# Altium integrated library Motorola Microcontroller 32-Bit.IntLib: 337 symbols (part 6 of 29)
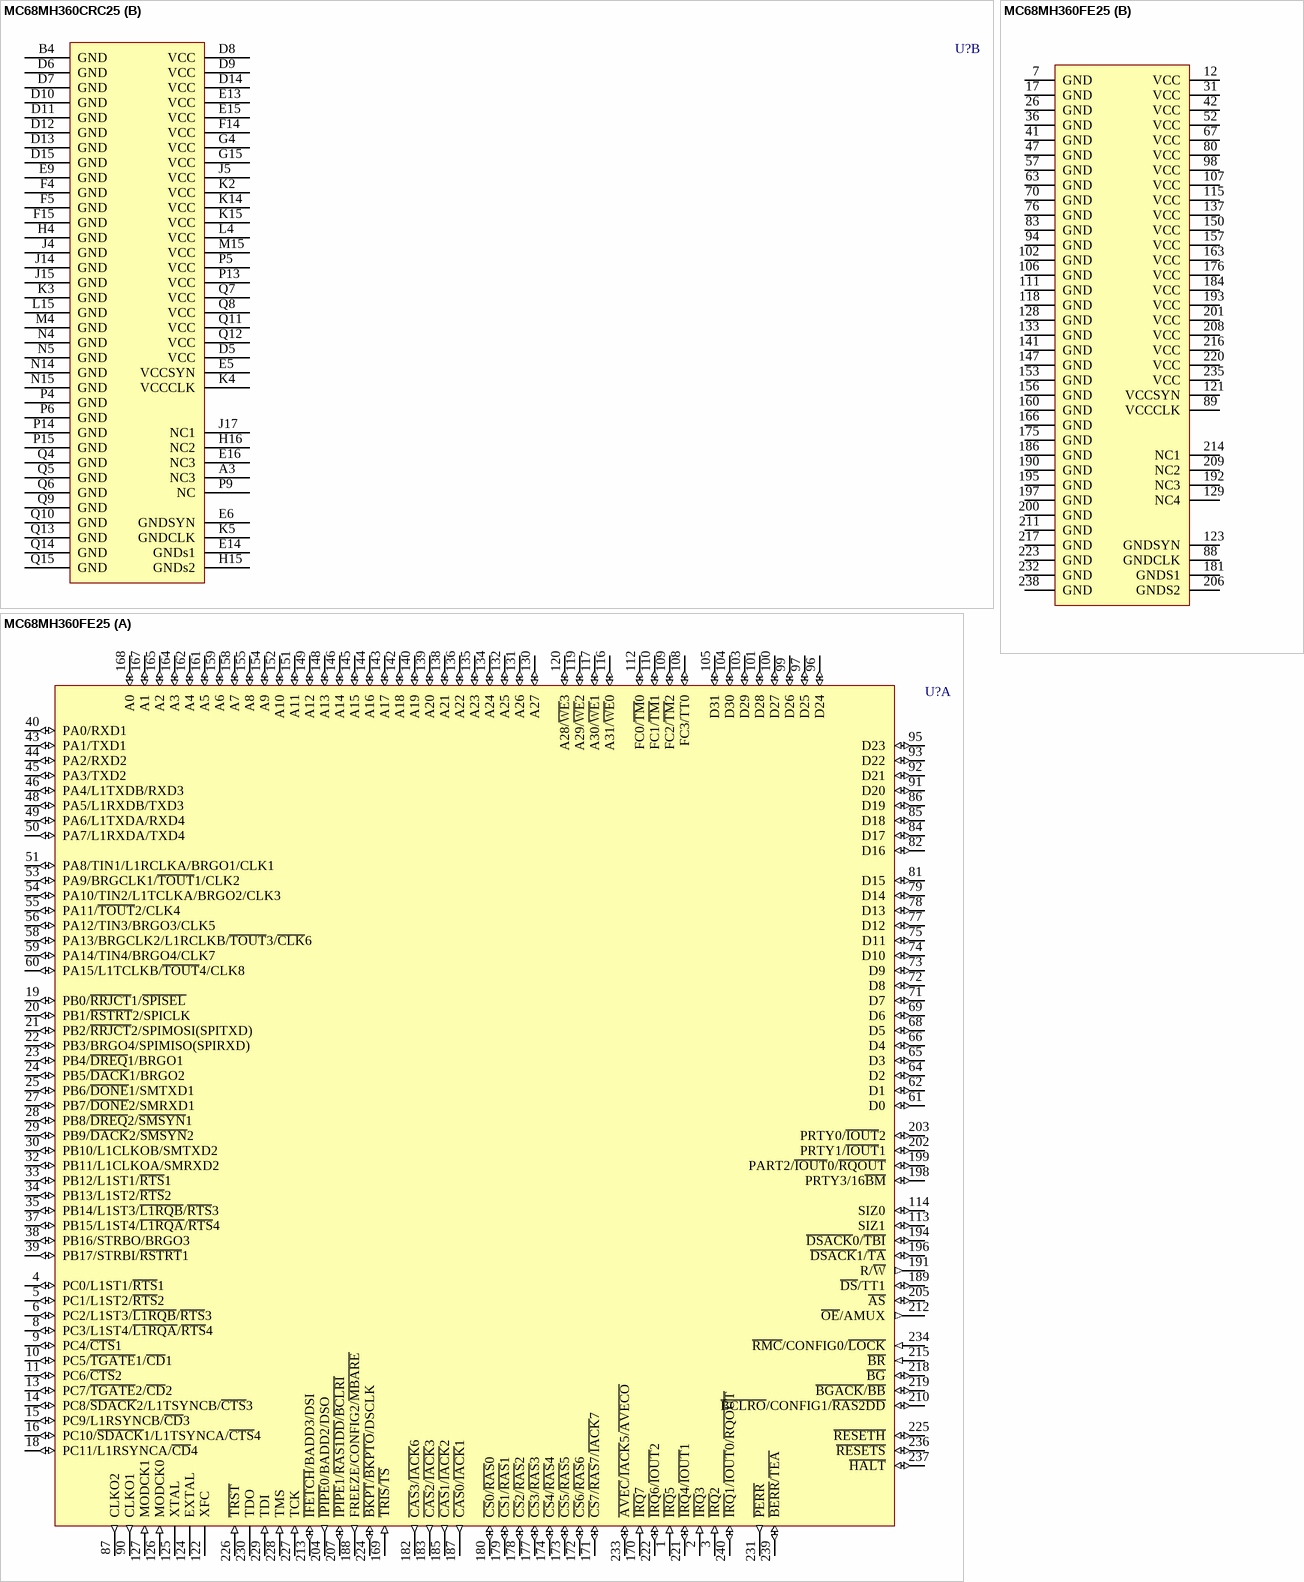
[diagram p245: symbols MC68MH360CRC25 to MC68MH360FE25]

## MC68MH360FE25
designator U?
Quad Integrated Communication Controller; Published: 21-Mar-2003; LatestRevisionDate: 13-Apr-2006; LatestRevisionNote: IPC-7351 Footprint Added.; DatasheetVersion: Jan-1995; PackageVersion: Mar-1995; PackageReference: 988-01; Publisher: Altium Limited; PackageDescription: 240-Pin Shrink Quad Flat Pack 0.5 mm Pitch; ComponentLink1Description: Manufacturer Link; ComponentLink1URL: http://www.freescale.com/; ComponentLink2Description: Datasheet; ComponentLink2URL: http://www.freescale.com/files/32bit/doc/data_sheet/MC68360.pdf
footprint 988-01_N (Shrink QFP, 240-Leads, Body 31.3x31.3mm, Pitch 0.5mm, IPC Medium Density)
footprint 988-01_L (Shrink QFP, 240-Leads, Body 31.3x31.3mm, Pitch 0.5mm, IPC High Density)
footprint 988-01_M (Shrink QFP, 240-Leads, Body 31.3x31.3mm, Pitch 0.5mm, IPC Low Density)
3D model MC68MH360-988-01 (240-Pin Shrink Quad Flat Pack 0.5 mm Pitch)
part A pins: 1 ~{IRQ}5 (in), 2 ~{IRQ}3 (in), 3 ~{IRQ}2 (in), 4 PC0/L1ST1/~{RTS}1 (io), 5 PC1/L1ST2/~{RTS}2 (io), 6 PC2/L1ST3/~{L1RQB}/~{RTS}3 (io), 8 PC3/L1ST4/~{L1RQA}/~{RTS}4 (io), 9 PC4/~{CTS}1 (io), 10 PC5/~{TGATE}1/~{CD}1 (io), 11 PC6/~{CTS}2 (io), 13 PC7/~{TGATE}2/~{CD}2 (io), 14 PC8/~{SDACK}2/L1TSYNCB/~{CTS}3 (io), 15 PC9/L1RSYNCB/~{CD}3 (io), 16 PC10/~{SDACK}1/L1TSYNCA/~{CTS}4 (io), 18 PC11/L1RSYNCA/~{CD}4 (io), 19 PB0/~{RRJCT}1/~{SPISEL} (io), 20 PB1/~{RSTRT}2/SPICLK (io), 21 PB2/~{RRJCT}2/SPIMOSI(SPITXD) (io), 22 PB3/BRGO4/SPIMISO(SPIRXD) (io), 23 PB4/~{DREQ}1/BRGO1 (io), 24 PB5/~{DACK}1/BRGO2 (io), 25 PB6/~{DONE}1/SMTXD1 (io), 27 PB7/~{DONE}2/SMRXD1 (io), 28 PB8/~{DREQ}2/~{SMSYN}1 (io), 29 PB9/~{DACK}2/~{SMSYN}2 (io), 30 PB10/L1CLKOB/SMTXD2 (io), 32 PB11/L1CLKOA/SMRXD2 (io), 33 PB12/L1ST1/~{RTS}1 (io), 34 PB13/L1ST2/~{RTS}2 (io), 35 PB14/L1ST3/~{L1RQB}/~{RTS}3 (io), 37 PB15/L1ST4/~{L1RQA}/~{RTS}4 (io), 38 PB16/STRBO/BRGO3 (io), 39 PB17/STRBI/~{RSTRT}1 (io), 40 PA0/RXD1 (io), 43 PA1/TXD1 (io), 44 PA2/RXD2 (io), 45 PA3/TXD2 (io), 46 PA4/L1TXDB/RXD3 (io), 48 PA5/L1RXDB/TXD3 (io), 49 PA6/L1TXDA/RXD4 (io), 50 PA7/L1RXDA/TXD4 (io), 51 PA8/TIN1/L1RCLKA/BRGO1/CLK1 (io), 53 PA9/BRGCLK1/~{TOUT}1/CLK2 (io), 54 PA10/TIN2/L1TCLKA/BRGO2/CLK3 (io), 55 PA11/~{TOUT}2/CLK4 (io), 56 PA12/TIN3/BRGO3/CLK5 (io), 58 PA13/BRGCLK2/L1RCLKB/~{TOUT}3/~{CLK}6 (io), 59 PA14/TIN4/BRGO4/CLK7 (io), 60 PA15/L1TCLKB/~{TOUT}4/CLK8 (io), 61 D0 (io), 62 D1 (io), 64 D2 (io), 65 D3 (io), 66 D4 (io), 68 D5 (io), 69 D6 (io), 71 D7 (io), 72 D8 (io), 73 D9 (io), 74 D10 (io), 75 D11 (io), 77 D12 (io), 78 D13 (io), 79 D14 (io), 81 D15 (io), 82 D16 (io), 84 D17 (io), 85 D18 (io), 86 D19 (io), 87 CLKO2 (out), 90 CLKO1 (out), 91 D20 (io), 92 D21 (io), 93 D22 (io), 95 D23 (io), 96 D24 (io), 97 D25 (io), 99 D26 (io), 100 D27 (io), 101 D28 (io), 103 D29 (io), 104 D30 (io), 105 D31 (io), 108 FC3/TT0 (io), 109 FC2/~{TM}2 (io), 110 FC1/~{TM}1 (io), 112 FC0/~{TM}0 (io), 113 SIZ1 (io), 114 SIZ0 (io), 116 A31/~{WE}0 (io), 117 A30/~{WE}1 (io), 119 A29/~{WE}2 (io), 120 A28/~{WE}3 (io), 122 XFC, 124 EXTAL, 125 XTAL, 126 MODCK0 (in), 127 MODCK1 (in), 130 A27 (io), 131 A26 (io), 132 A25 (io), 134 A24 (io), 135 A23 (io), 136 A22 (io), 138 A21 (io), 139 A20 (io), 140 A19 (io), 142 A18 (io), 143 A17 (io), 144 A16 (io), 145 A15 (io), 146 A14 (io), 148 A13 (io), 149 A12 (io), 151 A11 (io), 152 A10 (io), 154 A9 (io), 155 A8 (io), 158 A7 (io), 159 A6 (io), 161 A5 (io), 162 A4 (io), 164 A3 (io), 165 A2 (io), 167 A1 (io), 168 A0 (io), 169 ~{TRIS}/~{TS} (in), 170 ~{IRQ}7 (in), 171 ~{CS}7/~{RAS}7/~{IACK}7 (io), 172 ~{CS}6/~{RAS}6 (io), 173 ~{CS}5/~{RAS}5 (io), 174 ~{CS}4/~{RAS}4 (io), 177 ~{CS}3/~{RAS}3 (io), 178 ~{CS}2/~{RAS}2 (io), 179 ~{CS}1/~{RAS}1 (io), 180 ~{CS}0/~{RAS}0 (io), 182 ~{CAS}3/~{IACK}6 (out), 183 ~{CAS}2/~{IACK}3 (out), 185 ~{CAS}1/~{IACK}2 (out), 187 ~{CAS}0/~{IACK}1 (out), 188 FREEZE/CONFIG2/~{MBARE} (out), 189 ~{DS}/TT1 (io), 191 R/~{W} (out), 194 ~{DSACK}0/~{TBI} (io), 196 ~{DSACK}1/~{TA} (io), 198 PRTY3/16~{BM} (io), 199 PART2/~{IOUT}0/~{RQOUT} (io), 202 PRTY1/~{IOUT}1 (io), 203 PRTY0/~{IOUT}2 (io), 204 ~{IPIPE}0/BADD2/DSO (out), 205 ~{AS} (io), 207 ~{IPIPE}1/~{RAS1DD}/~{BCLRI} (io), 210 ~{BCLRO}/CONFIG1/~{RAS2DD} (io), 212 ~{OE}/AMUX (out), 213 ~{IFETCH}/BADD3/DSI (io), 215 ~{BR} (in), 218 ~{BG} (io), 219 ~{BGACK}/~{BB} (io), 221 ~{IRQ}4/~{IOUT}1 (io), 222 ~{IRQ}6/~{IOUT}2 (io), 224 ~{BKPT}/~{BKPTO}/DSCLK (io), 225 ~{RESETH} (io), 226 ~{TRST} (in), 227 TCK (in), 228 TMS (in), 229 TDI (in), 230 TDO (hiz), 231 ~{PERR} (out), 233 ~{AVEC}/~{IACK}5/~{AVECO} (io), 234 ~{RMC}/CONFIG0/~{LOCK} (in), 236 ~{RESETS} (io), 237 ~{HALT} (io), 239 ~{BERR}/~{TEA} (io), 240 ~{IRQ}1/~{IOUT}0/~{RQOUT} (io)
part B pins: 7 GND (power), 12 VCC (power), 17 GND (power), 26 GND (power), 31 VCC (power), 36 GND (power), 41 GND (power), 42 VCC (power), 47 GND (power), 52 VCC (power), 57 GND (power), 63 GND (power), 67 VCC (power), 70 GND (power), 76 GND (power), 80 VCC (power), 83 GND (power), 88 GNDCLK (power), 89 VCCCLK (power), 94 GND (power), 98 VCC (power), 102 GND (power), 106 GND (power), 107 VCC (power), 111 GND (power), 115 VCC (power), 118 GND (power), 121 VCCSYN (power), 123 GNDSYN (power), 128 GND (power), 129 NC4, 133 GND (power), 137 VCC (power), 141 GND (power), 147 GND (power), 150 VCC (power), 153 GND (power), 156 GND (power), 157 VCC (power), 160 GND (power), 163 VCC (power), 166 GND (power), 175 GND (power), 176 VCC (power), 181 GNDS1 (power), 184 VCC (power), 186 GND (power), 190 GND (power), 192 NC3, 193 VCC (power), 195 GND (power), 197 GND (power), 200 GND (power), 201 VCC (power), 206 GNDS2 (power), 208 VCC (power), 209 NC2, 211 GND (power), 214 NC1, 216 VCC (power), 217 GND (power), 220 VCC (power), 223 GND (power), 232 GND (power), 235 VCC (power), 238 GND (power)

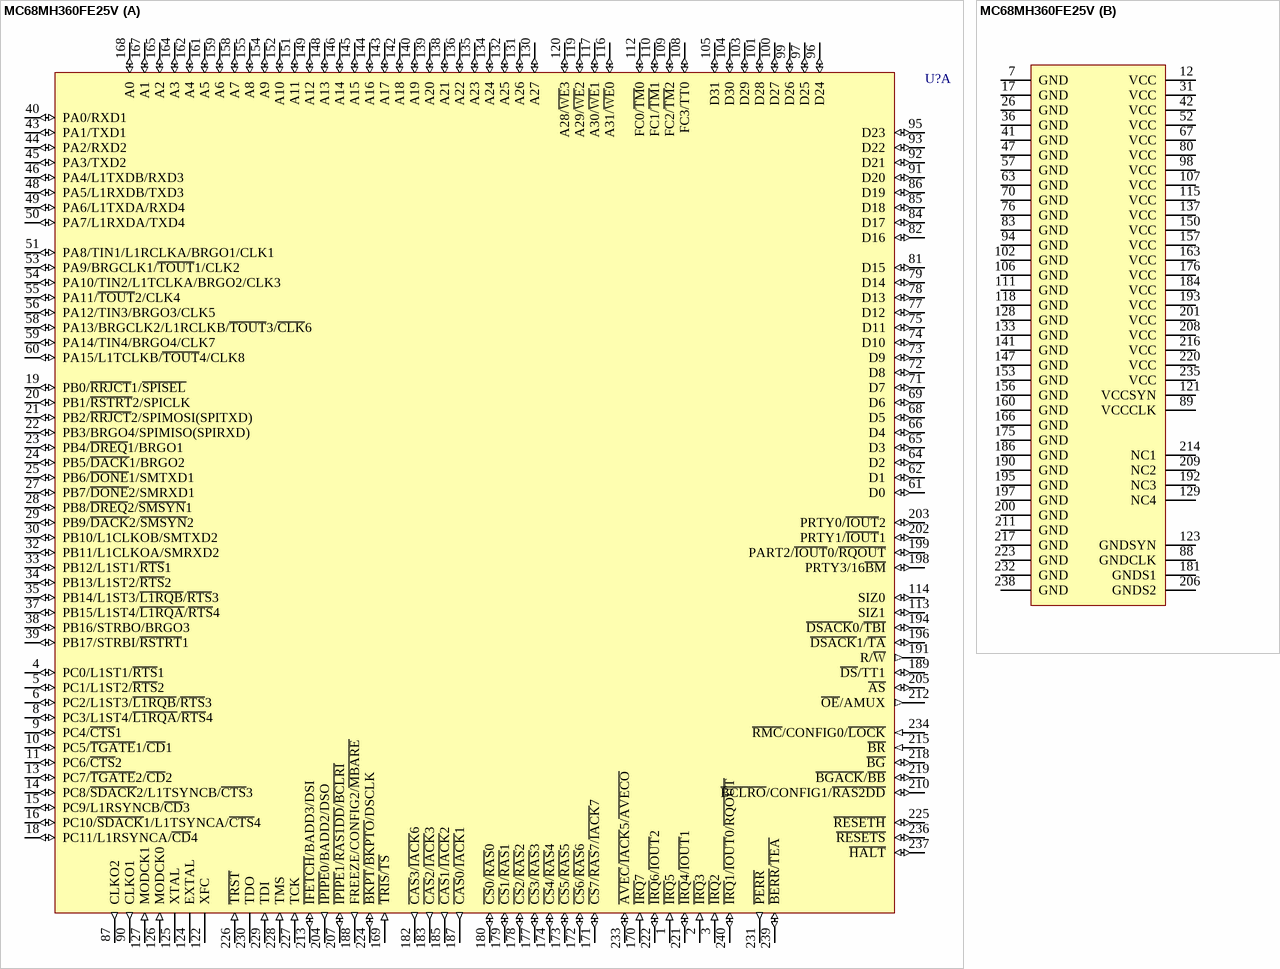
[diagram p48: symbol MC68MH360FE25V]

## MC68MH360FE25V
designator U?
Quad Integrated Communication Controller; Published: 21-Mar-2003; LatestRevisionDate: 13-Apr-2006; LatestRevisionNote: IPC-7351 Footprint Added.; DatasheetVersion: Jan-1995; PackageVersion: Mar-1995; PackageReference: 988-01; Publisher: Altium Limited; PackageDescription: 240-Pin Shrink Quad Flat Pack 0.5 mm Pitch; ComponentLink1Description: Manufacturer Link; ComponentLink1URL: http://www.freescale.com/; ComponentLink2Description: Datasheet; ComponentLink2URL: http://www.freescale.com/files/32bit/doc/data_sheet/MC68360.pdf
footprint 988-01_N (Shrink QFP, 240-Leads, Body 31.3x31.3mm, Pitch 0.5mm, IPC Medium Density)
footprint 988-01_L (Shrink QFP, 240-Leads, Body 31.3x31.3mm, Pitch 0.5mm, IPC High Density)
footprint 988-01_M (Shrink QFP, 240-Leads, Body 31.3x31.3mm, Pitch 0.5mm, IPC Low Density)
3D model MC68MH360-988-01 (240-Pin Shrink Quad Flat Pack 0.5 mm Pitch)
part A pins: 1 ~{IRQ}5 (in), 2 ~{IRQ}3 (in), 3 ~{IRQ}2 (in), 4 PC0/L1ST1/~{RTS}1 (io), 5 PC1/L1ST2/~{RTS}2 (io), 6 PC2/L1ST3/~{L1RQB}/~{RTS}3 (io), 8 PC3/L1ST4/~{L1RQA}/~{RTS}4 (io), 9 PC4/~{CTS}1 (io), 10 PC5/~{TGATE}1/~{CD}1 (io), 11 PC6/~{CTS}2 (io), 13 PC7/~{TGATE}2/~{CD}2 (io), 14 PC8/~{SDACK}2/L1TSYNCB/~{CTS}3 (io), 15 PC9/L1RSYNCB/~{CD}3 (io), 16 PC10/~{SDACK}1/L1TSYNCA/~{CTS}4 (io), 18 PC11/L1RSYNCA/~{CD}4 (io), 19 PB0/~{RRJCT}1/~{SPISEL} (io), 20 PB1/~{RSTRT}2/SPICLK (io), 21 PB2/~{RRJCT}2/SPIMOSI(SPITXD) (io), 22 PB3/BRGO4/SPIMISO(SPIRXD) (io), 23 PB4/~{DREQ}1/BRGO1 (io), 24 PB5/~{DACK}1/BRGO2 (io), 25 PB6/~{DONE}1/SMTXD1 (io), 27 PB7/~{DONE}2/SMRXD1 (io), 28 PB8/~{DREQ}2/~{SMSYN}1 (io), 29 PB9/~{DACK}2/~{SMSYN}2 (io), 30 PB10/L1CLKOB/SMTXD2 (io), 32 PB11/L1CLKOA/SMRXD2 (io), 33 PB12/L1ST1/~{RTS}1 (io), 34 PB13/L1ST2/~{RTS}2 (io), 35 PB14/L1ST3/~{L1RQB}/~{RTS}3 (io), 37 PB15/L1ST4/~{L1RQA}/~{RTS}4 (io), 38 PB16/STRBO/BRGO3 (io), 39 PB17/STRBI/~{RSTRT}1 (io), 40 PA0/RXD1 (io), 43 PA1/TXD1 (io), 44 PA2/RXD2 (io), 45 PA3/TXD2 (io), 46 PA4/L1TXDB/RXD3 (io), 48 PA5/L1RXDB/TXD3 (io), 49 PA6/L1TXDA/RXD4 (io), 50 PA7/L1RXDA/TXD4 (io), 51 PA8/TIN1/L1RCLKA/BRGO1/CLK1 (io), 53 PA9/BRGCLK1/~{TOUT}1/CLK2 (io), 54 PA10/TIN2/L1TCLKA/BRGO2/CLK3 (io), 55 PA11/~{TOUT}2/CLK4 (io), 56 PA12/TIN3/BRGO3/CLK5 (io), 58 PA13/BRGCLK2/L1RCLKB/~{TOUT}3/~{CLK}6 (io), 59 PA14/TIN4/BRGO4/CLK7 (io), 60 PA15/L1TCLKB/~{TOUT}4/CLK8 (io), 61 D0 (io), 62 D1 (io), 64 D2 (io), 65 D3 (io), 66 D4 (io), 68 D5 (io), 69 D6 (io), 71 D7 (io), 72 D8 (io), 73 D9 (io), 74 D10 (io), 75 D11 (io), 77 D12 (io), 78 D13 (io), 79 D14 (io), 81 D15 (io), 82 D16 (io), 84 D17 (io), 85 D18 (io), 86 D19 (io), 87 CLKO2 (out), 90 CLKO1 (out), 91 D20 (io), 92 D21 (io), 93 D22 (io), 95 D23 (io), 96 D24 (io), 97 D25 (io), 99 D26 (io), 100 D27 (io), 101 D28 (io), 103 D29 (io), 104 D30 (io), 105 D31 (io), 108 FC3/TT0 (io), 109 FC2/~{TM}2 (io), 110 FC1/~{TM}1 (io), 112 FC0/~{TM}0 (io), 113 SIZ1 (io), 114 SIZ0 (io), 116 A31/~{WE}0 (io), 117 A30/~{WE}1 (io), 119 A29/~{WE}2 (io), 120 A28/~{WE}3 (io), 122 XFC, 124 EXTAL, 125 XTAL, 126 MODCK0 (in), 127 MODCK1 (in), 130 A27 (io), 131 A26 (io), 132 A25 (io), 134 A24 (io), 135 A23 (io), 136 A22 (io), 138 A21 (io), 139 A20 (io), 140 A19 (io), 142 A18 (io), 143 A17 (io), 144 A16 (io), 145 A15 (io), 146 A14 (io), 148 A13 (io), 149 A12 (io), 151 A11 (io), 152 A10 (io), 154 A9 (io), 155 A8 (io), 158 A7 (io), 159 A6 (io), 161 A5 (io), 162 A4 (io), 164 A3 (io), 165 A2 (io), 167 A1 (io), 168 A0 (io), 169 ~{TRIS}/~{TS} (in), 170 ~{IRQ}7 (in), 171 ~{CS}7/~{RAS}7/~{IACK}7 (io), 172 ~{CS}6/~{RAS}6 (io), 173 ~{CS}5/~{RAS}5 (io), 174 ~{CS}4/~{RAS}4 (io), 177 ~{CS}3/~{RAS}3 (io), 178 ~{CS}2/~{RAS}2 (io), 179 ~{CS}1/~{RAS}1 (io), 180 ~{CS}0/~{RAS}0 (io), 182 ~{CAS}3/~{IACK}6 (out), 183 ~{CAS}2/~{IACK}3 (out), 185 ~{CAS}1/~{IACK}2 (out), 187 ~{CAS}0/~{IACK}1 (out), 188 FREEZE/CONFIG2/~{MBARE} (out), 189 ~{DS}/TT1 (io), 191 R/~{W} (out), 194 ~{DSACK}0/~{TBI} (io), 196 ~{DSACK}1/~{TA} (io), 198 PRTY3/16~{BM} (io), 199 PART2/~{IOUT}0/~{RQOUT} (io), 202 PRTY1/~{IOUT}1 (io), 203 PRTY0/~{IOUT}2 (io), 204 ~{IPIPE}0/BADD2/DSO (out), 205 ~{AS} (io), 207 ~{IPIPE}1/~{RAS1DD}/~{BCLRI} (io), 210 ~{BCLRO}/CONFIG1/~{RAS2DD} (io), 212 ~{OE}/AMUX (out), 213 ~{IFETCH}/BADD3/DSI (io), 215 ~{BR} (in), 218 ~{BG} (io), 219 ~{BGACK}/~{BB} (io), 221 ~{IRQ}4/~{IOUT}1 (io), 222 ~{IRQ}6/~{IOUT}2 (io), 224 ~{BKPT}/~{BKPTO}/DSCLK (io), 225 ~{RESETH} (io), 226 ~{TRST} (in), 227 TCK (in), 228 TMS (in), 229 TDI (in), 230 TDO (hiz), 231 ~{PERR} (out), 233 ~{AVEC}/~{IACK}5/~{AVECO} (io), 234 ~{RMC}/CONFIG0/~{LOCK} (in), 236 ~{RESETS} (io), 237 ~{HALT} (io), 239 ~{BERR}/~{TEA} (io), 240 ~{IRQ}1/~{IOUT}0/~{RQOUT} (io)
part B pins: 7 GND (power), 12 VCC (power), 17 GND (power), 26 GND (power), 31 VCC (power), 36 GND (power), 41 GND (power), 42 VCC (power), 47 GND (power), 52 VCC (power), 57 GND (power), 63 GND (power), 67 VCC (power), 70 GND (power), 76 GND (power), 80 VCC (power), 83 GND (power), 88 GNDCLK (power), 89 VCCCLK (power), 94 GND (power), 98 VCC (power), 102 GND (power), 106 GND (power), 107 VCC (power), 111 GND (power), 115 VCC (power), 118 GND (power), 121 VCCSYN (power), 123 GNDSYN (power), 128 GND (power), 129 NC4, 133 GND (power), 137 VCC (power), 141 GND (power), 147 GND (power), 150 VCC (power), 153 GND (power), 156 GND (power), 157 VCC (power), 160 GND (power), 163 VCC (power), 166 GND (power), 175 GND (power), 176 VCC (power), 181 GNDS1 (power), 184 VCC (power), 186 GND (power), 190 GND (power), 192 NC3, 193 VCC (power), 195 GND (power), 197 GND (power), 200 GND (power), 201 VCC (power), 206 GNDS2 (power), 208 VCC (power), 209 NC2, 211 GND (power), 214 NC1, 216 VCC (power), 217 GND (power), 220 VCC (power), 223 GND (power), 232 GND (power), 235 VCC (power), 238 GND (power)

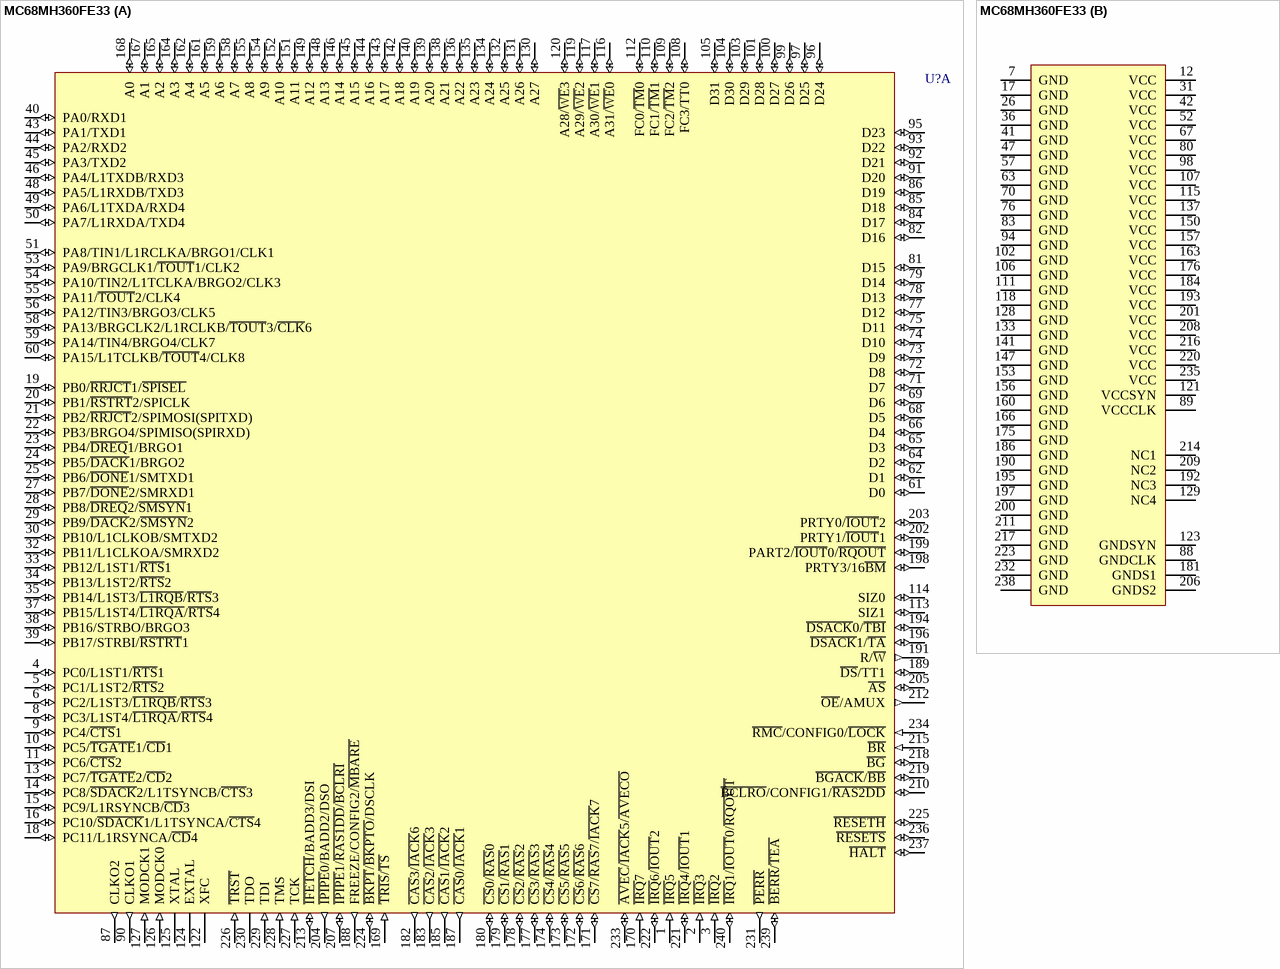
[diagram p49: symbol MC68MH360FE33]

## MC68MH360FE33
designator U?
Quad Integrated Communication Controller; Published: 21-Mar-2003; LatestRevisionDate: 13-Apr-2006; LatestRevisionNote: IPC-7351 Footprint Added.; DatasheetVersion: Jan-1995; PackageVersion: Mar-1995; PackageReference: 988-01; Publisher: Altium Limited; PackageDescription: 240-Pin Shrink Quad Flat Pack 0.5 mm Pitch; ComponentLink1Description: Manufacturer Link; ComponentLink1URL: http://www.freescale.com/; ComponentLink2Description: Datasheet; ComponentLink2URL: http://www.freescale.com/files/32bit/doc/data_sheet/MC68360.pdf
footprint 988-01_N (Shrink QFP, 240-Leads, Body 31.3x31.3mm, Pitch 0.5mm, IPC Medium Density)
footprint 988-01_L (Shrink QFP, 240-Leads, Body 31.3x31.3mm, Pitch 0.5mm, IPC High Density)
footprint 988-01_M (Shrink QFP, 240-Leads, Body 31.3x31.3mm, Pitch 0.5mm, IPC Low Density)
3D model MC68MH360-988-01 (240-Pin Shrink Quad Flat Pack 0.5 mm Pitch)
part A pins: 1 ~{IRQ}5 (in), 2 ~{IRQ}3 (in), 3 ~{IRQ}2 (in), 4 PC0/L1ST1/~{RTS}1 (io), 5 PC1/L1ST2/~{RTS}2 (io), 6 PC2/L1ST3/~{L1RQB}/~{RTS}3 (io), 8 PC3/L1ST4/~{L1RQA}/~{RTS}4 (io), 9 PC4/~{CTS}1 (io), 10 PC5/~{TGATE}1/~{CD}1 (io), 11 PC6/~{CTS}2 (io), 13 PC7/~{TGATE}2/~{CD}2 (io), 14 PC8/~{SDACK}2/L1TSYNCB/~{CTS}3 (io), 15 PC9/L1RSYNCB/~{CD}3 (io), 16 PC10/~{SDACK}1/L1TSYNCA/~{CTS}4 (io), 18 PC11/L1RSYNCA/~{CD}4 (io), 19 PB0/~{RRJCT}1/~{SPISEL} (io), 20 PB1/~{RSTRT}2/SPICLK (io), 21 PB2/~{RRJCT}2/SPIMOSI(SPITXD) (io), 22 PB3/BRGO4/SPIMISO(SPIRXD) (io), 23 PB4/~{DREQ}1/BRGO1 (io), 24 PB5/~{DACK}1/BRGO2 (io), 25 PB6/~{DONE}1/SMTXD1 (io), 27 PB7/~{DONE}2/SMRXD1 (io), 28 PB8/~{DREQ}2/~{SMSYN}1 (io), 29 PB9/~{DACK}2/~{SMSYN}2 (io), 30 PB10/L1CLKOB/SMTXD2 (io), 32 PB11/L1CLKOA/SMRXD2 (io), 33 PB12/L1ST1/~{RTS}1 (io), 34 PB13/L1ST2/~{RTS}2 (io), 35 PB14/L1ST3/~{L1RQB}/~{RTS}3 (io), 37 PB15/L1ST4/~{L1RQA}/~{RTS}4 (io), 38 PB16/STRBO/BRGO3 (io), 39 PB17/STRBI/~{RSTRT}1 (io), 40 PA0/RXD1 (io), 43 PA1/TXD1 (io), 44 PA2/RXD2 (io), 45 PA3/TXD2 (io), 46 PA4/L1TXDB/RXD3 (io), 48 PA5/L1RXDB/TXD3 (io), 49 PA6/L1TXDA/RXD4 (io), 50 PA7/L1RXDA/TXD4 (io), 51 PA8/TIN1/L1RCLKA/BRGO1/CLK1 (io), 53 PA9/BRGCLK1/~{TOUT}1/CLK2 (io), 54 PA10/TIN2/L1TCLKA/BRGO2/CLK3 (io), 55 PA11/~{TOUT}2/CLK4 (io), 56 PA12/TIN3/BRGO3/CLK5 (io), 58 PA13/BRGCLK2/L1RCLKB/~{TOUT}3/~{CLK}6 (io), 59 PA14/TIN4/BRGO4/CLK7 (io), 60 PA15/L1TCLKB/~{TOUT}4/CLK8 (io), 61 D0 (io), 62 D1 (io), 64 D2 (io), 65 D3 (io), 66 D4 (io), 68 D5 (io), 69 D6 (io), 71 D7 (io), 72 D8 (io), 73 D9 (io), 74 D10 (io), 75 D11 (io), 77 D12 (io), 78 D13 (io), 79 D14 (io), 81 D15 (io), 82 D16 (io), 84 D17 (io), 85 D18 (io), 86 D19 (io), 87 CLKO2 (out), 90 CLKO1 (out), 91 D20 (io), 92 D21 (io), 93 D22 (io), 95 D23 (io), 96 D24 (io), 97 D25 (io), 99 D26 (io), 100 D27 (io), 101 D28 (io), 103 D29 (io), 104 D30 (io), 105 D31 (io), 108 FC3/TT0 (io), 109 FC2/~{TM}2 (io), 110 FC1/~{TM}1 (io), 112 FC0/~{TM}0 (io), 113 SIZ1 (io), 114 SIZ0 (io), 116 A31/~{WE}0 (io), 117 A30/~{WE}1 (io), 119 A29/~{WE}2 (io), 120 A28/~{WE}3 (io), 122 XFC, 124 EXTAL, 125 XTAL, 126 MODCK0 (in), 127 MODCK1 (in), 130 A27 (io), 131 A26 (io), 132 A25 (io), 134 A24 (io), 135 A23 (io), 136 A22 (io), 138 A21 (io), 139 A20 (io), 140 A19 (io), 142 A18 (io), 143 A17 (io), 144 A16 (io), 145 A15 (io), 146 A14 (io), 148 A13 (io), 149 A12 (io), 151 A11 (io), 152 A10 (io), 154 A9 (io), 155 A8 (io), 158 A7 (io), 159 A6 (io), 161 A5 (io), 162 A4 (io), 164 A3 (io), 165 A2 (io), 167 A1 (io), 168 A0 (io), 169 ~{TRIS}/~{TS} (in), 170 ~{IRQ}7 (in), 171 ~{CS}7/~{RAS}7/~{IACK}7 (io), 172 ~{CS}6/~{RAS}6 (io), 173 ~{CS}5/~{RAS}5 (io), 174 ~{CS}4/~{RAS}4 (io), 177 ~{CS}3/~{RAS}3 (io), 178 ~{CS}2/~{RAS}2 (io), 179 ~{CS}1/~{RAS}1 (io), 180 ~{CS}0/~{RAS}0 (io), 182 ~{CAS}3/~{IACK}6 (out), 183 ~{CAS}2/~{IACK}3 (out), 185 ~{CAS}1/~{IACK}2 (out), 187 ~{CAS}0/~{IACK}1 (out), 188 FREEZE/CONFIG2/~{MBARE} (out), 189 ~{DS}/TT1 (io), 191 R/~{W} (out), 194 ~{DSACK}0/~{TBI} (io), 196 ~{DSACK}1/~{TA} (io), 198 PRTY3/16~{BM} (io), 199 PART2/~{IOUT}0/~{RQOUT} (io), 202 PRTY1/~{IOUT}1 (io), 203 PRTY0/~{IOUT}2 (io), 204 ~{IPIPE}0/BADD2/DSO (out), 205 ~{AS} (io), 207 ~{IPIPE}1/~{RAS1DD}/~{BCLRI} (io), 210 ~{BCLRO}/CONFIG1/~{RAS2DD} (io), 212 ~{OE}/AMUX (out), 213 ~{IFETCH}/BADD3/DSI (io), 215 ~{BR} (in), 218 ~{BG} (io), 219 ~{BGACK}/~{BB} (io), 221 ~{IRQ}4/~{IOUT}1 (io), 222 ~{IRQ}6/~{IOUT}2 (io), 224 ~{BKPT}/~{BKPTO}/DSCLK (io), 225 ~{RESETH} (io), 226 ~{TRST} (in), 227 TCK (in), 228 TMS (in), 229 TDI (in), 230 TDO (hiz), 231 ~{PERR} (out), 233 ~{AVEC}/~{IACK}5/~{AVECO} (io), 234 ~{RMC}/CONFIG0/~{LOCK} (in), 236 ~{RESETS} (io), 237 ~{HALT} (io), 239 ~{BERR}/~{TEA} (io), 240 ~{IRQ}1/~{IOUT}0/~{RQOUT} (io)
part B pins: 7 GND (power), 12 VCC (power), 17 GND (power), 26 GND (power), 31 VCC (power), 36 GND (power), 41 GND (power), 42 VCC (power), 47 GND (power), 52 VCC (power), 57 GND (power), 63 GND (power), 67 VCC (power), 70 GND (power), 76 GND (power), 80 VCC (power), 83 GND (power), 88 GNDCLK (power), 89 VCCCLK (power), 94 GND (power), 98 VCC (power), 102 GND (power), 106 GND (power), 107 VCC (power), 111 GND (power), 115 VCC (power), 118 GND (power), 121 VCCSYN (power), 123 GNDSYN (power), 128 GND (power), 129 NC4, 133 GND (power), 137 VCC (power), 141 GND (power), 147 GND (power), 150 VCC (power), 153 GND (power), 156 GND (power), 157 VCC (power), 160 GND (power), 163 VCC (power), 166 GND (power), 175 GND (power), 176 VCC (power), 181 GNDS1 (power), 184 VCC (power), 186 GND (power), 190 GND (power), 192 NC3, 193 VCC (power), 195 GND (power), 197 GND (power), 200 GND (power), 201 VCC (power), 206 GNDS2 (power), 208 VCC (power), 209 NC2, 211 GND (power), 214 NC1, 216 VCC (power), 217 GND (power), 220 VCC (power), 223 GND (power), 232 GND (power), 235 VCC (power), 238 GND (power)

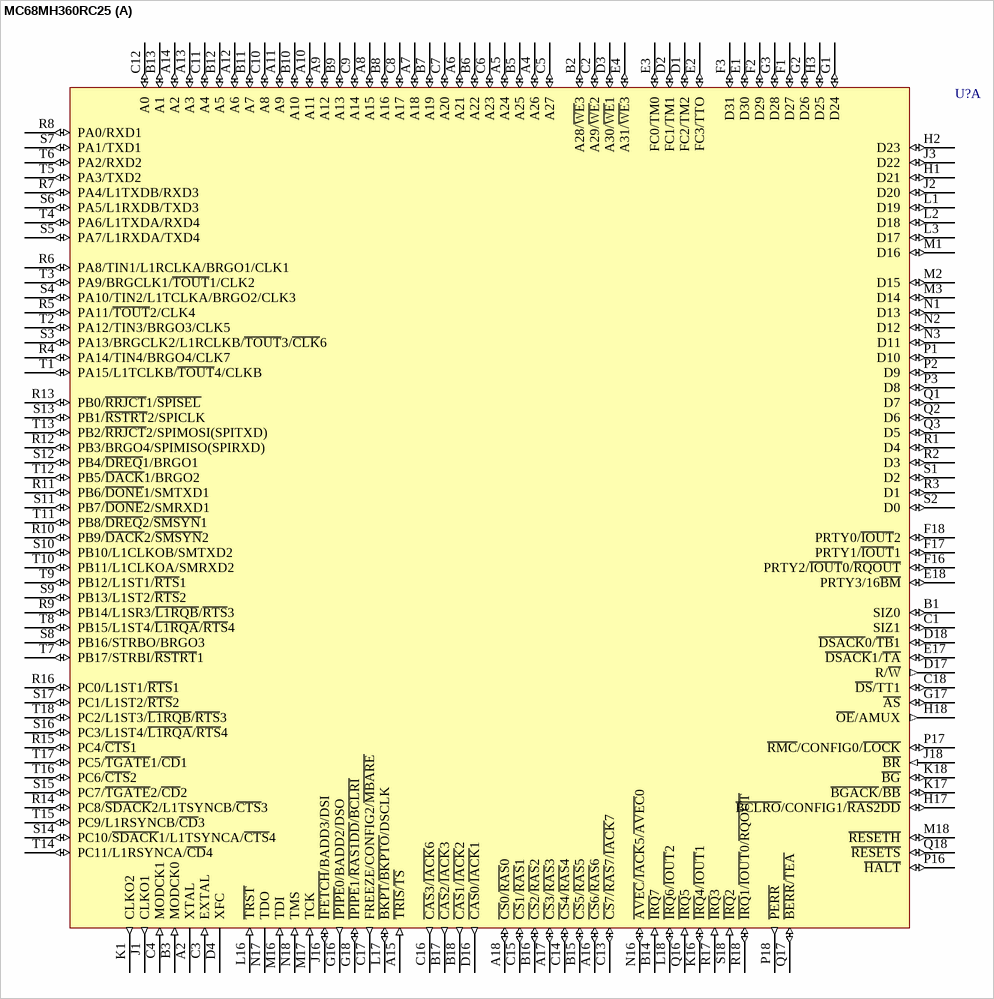
[diagram p50: symbol MC68MH360RC25]

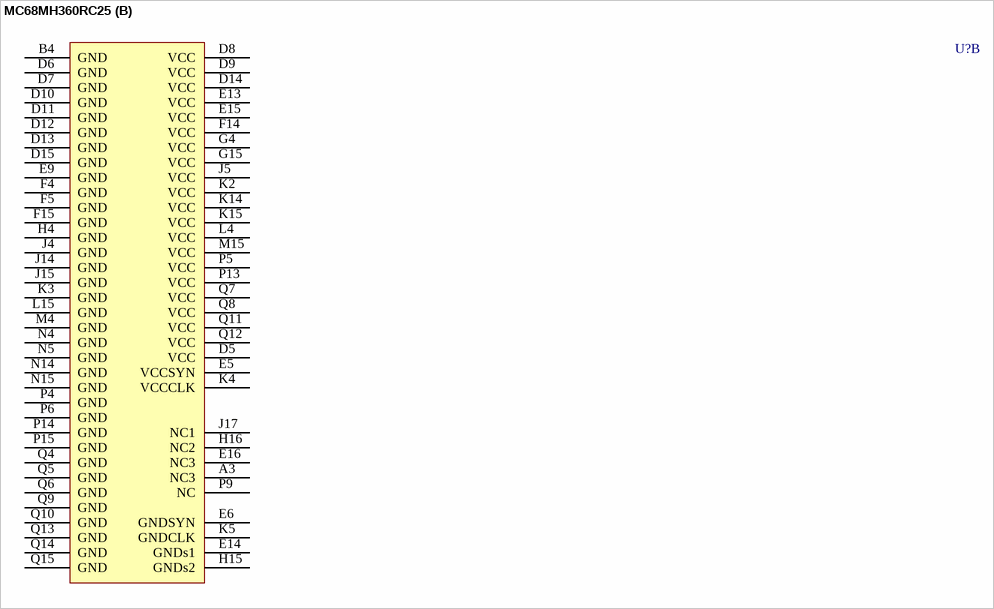
[diagram p51: symbol MC68MH360RC25]

## MC68MH360RC25
designator U?
Quad Integrated Communication Controller; Published: 21-Mar-2003; LatestRevisionDate: 06-Jun-2005; LatestRevisionNote: Stylized 3D Model Added.; DatasheetVersion: Jan-1995; PackageVersion: Jan-1995; PackageReference: PGA241; Publisher: Altium Limited; PackageDescription: 241-Pin Pin Grid Array 2.54 mm Pitch; ComponentLink1Description: Manufacturer Link; ComponentLink1URL: http://www.freescale.com/; ComponentLink2Description: Datasheet; ComponentLink2URL: http://www.freescale.com/files/32bit/doc/data_sheet/MC68360.pdf
footprint PGA241 (PGA, 241-Leads, Body 47x47mm, Pitch 2.54mm)
3D model MC68MH360-PGA241 (241-Pin Pin Grid Array 2.54 mm Pitch)
part A pins: A2 XTAL, A4 A26 (io), A5 A24 (io), A6 A21 (io), A7 A18 (io), A8 A15 (io), A9 A12 (io), A10 A11 (io), A11 A9 (io), A12 A6 (io), A13 A3 (io), A14 A2 (io), A15 ~{TRIS}/~{TS} (in), A16 ~{CS}6/~{RAS}6 (io), A17 ~{CS}3/~{RAS}3 (io), A18 ~{CS}0/~{RAS}0 (io), B1 SIZ0 (io), B2 A28/~{WE}3 (io), B3 MODCK0 (in), B5 A25 (io), B6 A22 (io), B7 A19 (io), B8 A16 (io), B9 A13 (io), B10 A10 (io), B11 A7 (io), B12 A5 (io), B13 A1 (io), B14 ~{IRQ}7 (in), B15 ~{CS}5/~{RAS}5 (io), B16 ~{CS}2/~{RAS}2 (io), B17 ~{CAS}2/~{IACK}3 (out), B18 ~{CAS}1/~{IACK}2 (out), C1 SIZ1 (io), C2 A29/~{WE}2 (io), C3 EXTAL (in), C4 MODCK1 (in), C5 A27 (io), C6 A23 (io), C7 A20 (io), C8 A17 (io), C9 A14 (io), C10 A8 (io), C11 A4 (io), C12 A0 (io), C13 ~{CS}7/~{RAS}7/~{IACK}7 (io), C14 ~{CS}4/~{RAS}4 (io), C15 ~{CS}1/~{RAS}1 (io), C16 ~{CAS}3/~{IACK}6 (out), C17 FREEZE/CONFIG2/~{MBARE} (out), C18 ~{DS}/TT1 (io), D1 FC2/TM2 (io), D2 FC1/TM1 (io), D3 A30/~{WE}1 (io), D4 XFC, D16 ~{CAS}0/~{IACK}1 (out), D17 R/~{W} (out), D18 ~{DSACK}0/~{TB}1 (io), E1 D30 (io), E2 FC3/TTO (io), E3 FC0/TM0 (io), E4 A31/~{WE}3 (io), E17 ~{DSACK}1/~{TA} (io), E18 PRTY3/16~{BM} (io), F1 D27 (io), F2 D29 (io), F3 D31 (io), F16 PRTY2/~{IOUT}0/~{RQOUT} (io), F17 PRTY1/~{IOUT}1 (io), F18 PRTY0/~{IOUT}2 (io), G1 D24 (io), G2 D26 (io), G3 D28 (io), G16 ~{IPIPE}0/BADD2/DSO (out), G17 ~{AS} (io), G18 ~{IPIPE}1/~{RAS1DD}/~{BCLRI} (io), H1 D21 (io), H2 D23 (io), H3 D25 (io), H17 ~{BCLRO}/CONFIG1/~{RAS2DD} (io), H18 ~{OE}/AMUX (out), J1 CLKO1 (out), J2 D20 (io), J3 D22 (io), J16 ~{IFETCH}/BADD3/DSI (io), J18 ~{BR} (in), K1 CLKO2 (out), K16 ~{IRQ}4/~{IOUT}1 (io), K17 ~{BGACK}/~{BB} (io), K18 ~{BG} (io), L1 D19 (io), L2 D18 (io), L3 D17 (io), L16 ~{TRST} (in), L17 ~{BKPT}/~{BKPTO}/DSCLK (io), L18 ~{IRQ}6/~{IOUT}2 (io), M1 D16 (io), M2 D15 (io), M3 D14 (io), M16 TDI (in), M17 TCK (in), M18 ~{RESETH} (io), N1 D13 (io), N2 D12 (io), N3 D11 (io), N16 ~{AVEC}/~{IACK}5/~{AVEC}0 (io), N17 TDO (hiz), N18 TMS (in), P1 D10 (io), P2 D9 (io), P3 D8 (io), P16 ~{HALT} (io), P17 ~{RMC}/CONFIG0/~{LOCK} (io), P18 ~{PERR} (out), Q1 D7 (io), Q2 D6 (io), Q3 D5 (io), Q16 ~{IRQ}5 (in), Q17 ~{BERR}/~{TEA} (io), Q18 ~{RESETS} (io), R1 D4 (io), R2 D3 (io), R3 D1 (io), R4 PA14/TIN4/BRGO4/CLK7 (io), R5 PA11/~{TOUT}2/CLK4 (io), R6 PA8/TIN1/L1RCLKA/BRGO1/CLK1 (io), R7 PA4/L1TXDB/RXD3 (io), R8 PA0/RXD1 (io), R9 PB14/L1SR3/~{L1RQB}/~{RTS}3 (io), R10 PB9/~{DACK}2/~{SMSYN}2 (io), R11 PB6/~{DONE}1/SMTXD1 (io), R12 PB3/BRGO4/SPIMISO(SPIRXD) (io), R13 PB0/~{RRJCT}1/~{SPISEL} (io), R14 PC8/~{SDACK}2/L1TSYNCB/~{CTS}3 (io), R15 PC4/~{CTS}1 (io), R16 PC0/L1ST1/~{RTS}1 (io), R17 ~{IRQ}3 (in), R18 ~{IRQ}1/~{IOUT}0/~{RQOUT} (io), S1 D2 (io), S2 D0 (io), S3 PA13/BRGCLK2/L1RCLKB/~{TOUT}3/~{CLK}6 (io), S4 PA10/TIN2/L1TCLKA/BRGO2/CLK3 (io), S5 PA7/L1RXDA/TXD4 (io), S6 PA5/L1RXDB/TXD3 (io), S7 PA1/TXD1 (io), S8 PB16/STRBO/BRGO3 (io), S9 PB13/L1ST2/~{RTS}2 (io), S10 PB10/L1CLKOB/SMTXD2 (io), S11 PB7/~{DONE}2/SMRXD1 (io), S12 PB4/~{DREQ}1/BRGO1 (io), S13 PB1/~{RSTRT}2/SPICLK (io), S14 PC10/~{SDACK}1/L1TSYNCA/~{CTS}4 (io), S15 PC7/~{TGATE}2/~{CD}2 (io), S16 PC3/L1ST4/~{L1RQA}/~{RTS}4 (io), S17 PC1/L1ST2/~{RTS}2 (io), S18 ~{IRQ}2 (in), T1 PA15/L1TCLKB/~{TOUT}4/CLKB (io), T2 PA12/TIN3/BRGO3/CLK5 (io), T3 PA9/BRGCLK1/~{TOUT}1/CLK2 (io), T4 PA6/L1TXDA/RXD4 (io), T5 PA3/TXD2 (io), T6 PA2/RXD2 (io), T7 PB17/STRBI/~{RSTRT}1 (io), T8 PB15/L1ST4/~{L1RQA}/~{RTS}4 (io), T9 PB12/L1ST1/~{RTS}1 (io), T10 PB11/L1CLKOA/SMRXD2 (io), T11 PB8/~{DREQ}2/~{SMSYN}1 (io), T12 PB5/~{DACK}1/BRGO2 (io), T13 PB2/~{RRJCT}2/SPIMOSI(SPITXD) (io), T14 PC11/L1RSYNCA/~{CD}4 (io), T15 PC9/L1RSYNCB/~{CD}3 (io), T16 PC6/~{CTS}2 (io), T17 PC5/~{TGATE}1/~{CD}1 (io), T18 PC2/L1ST3/~{L1RQB}/~{RTS}3 (io)
part B pins: A3 NC3, B4 GND (power), D5 VCC (power), D6 GND (power), D7 GND (power), D8 VCC (power), D9 VCC (power), D10 GND (power), D11 GND (power), D12 GND (power), D13 GND (power), D14 VCC (power), D15 GND (power), E5 VCCSYN (power), E6 GNDSYN (power), E9 GND (power), E13 VCC (power), E14 GNDs1 (power), E15 VCC (power), E16 NC3, F4 GND (power), F5 GND (power), F14 VCC (power), F15 GND (power), G4 VCC (power), G15 VCC (power), H4 GND (power), H15 GNDs2 (power), H16 NC2, J4 GND (power), J5 VCC (power), J14 GND (power), J15 GND (power), J17 NC1, K2 VCC (power), K3 GND (power), K4 VCCCLK (power), K5 GNDCLK (power), K14 VCC (power), K15 VCC (power), L4 VCC (power), L15 GND (power), M4 GND (power), M15 VCC (power), N4 GND (power), N5 GND (power), N14 GND (power), N15 GND (power), P4 GND (power), P5 VCC (power), P6 GND (power), P9 NC, P13 VCC (power), P14 GND (power), P15 GND (power), Q4 GND (power), Q5 GND (power), Q6 GND (power), Q7 VCC (power), Q8 VCC (power), Q9 GND (power), Q10 GND (power), Q11 VCC (power), Q12 VCC (power), Q13 GND (power), Q14 GND (power), Q15 GND (power)

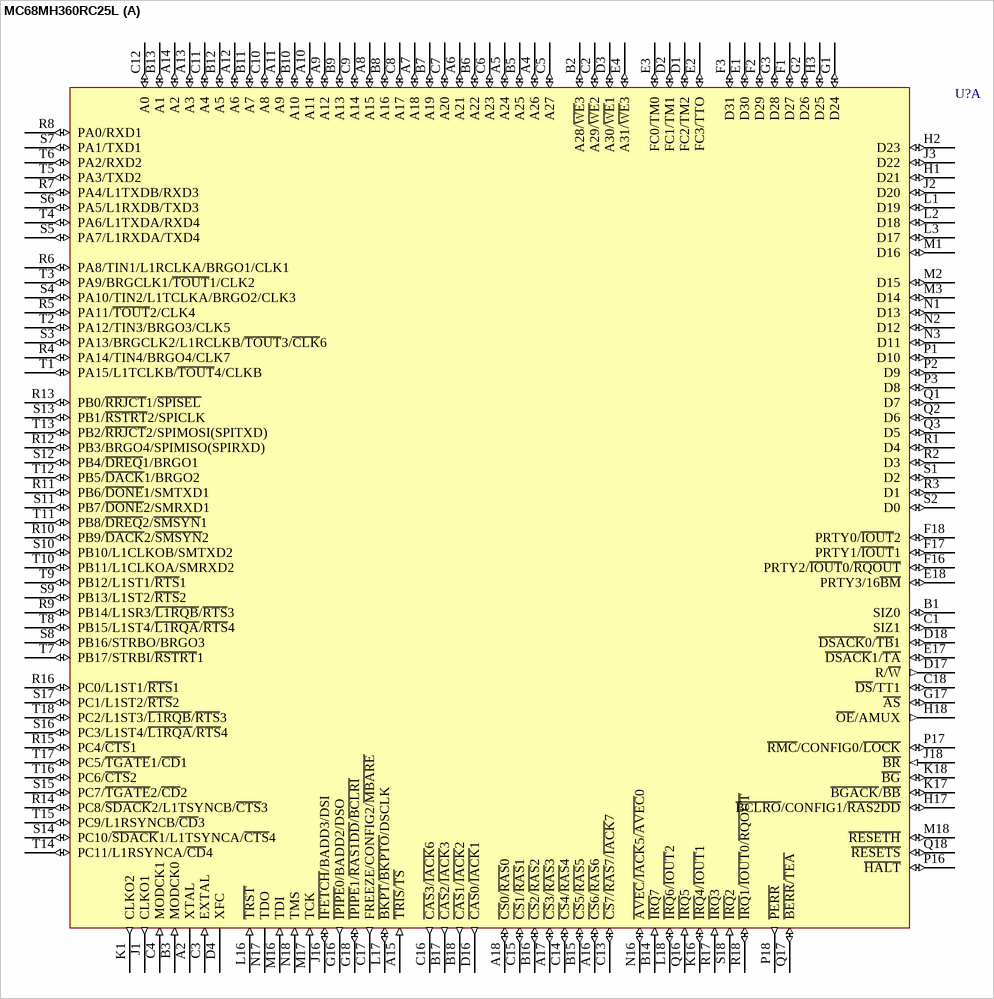
[diagram p52: symbol MC68MH360RC25L]

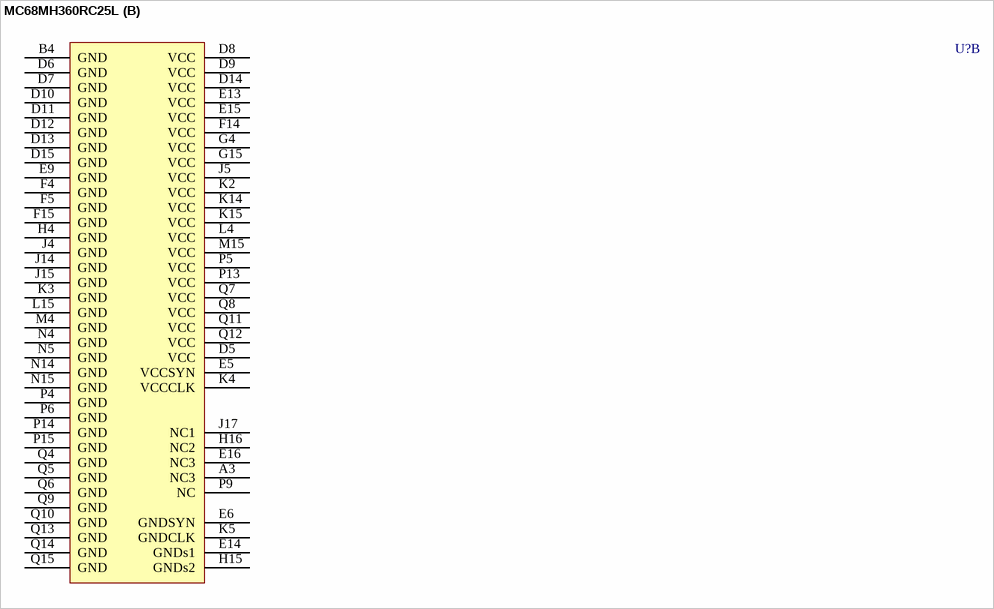
[diagram p53: symbol MC68MH360RC25L]

## MC68MH360RC25L
designator U?
Quad Integrated Communication Controller; Published: 21-Mar-2003; LatestRevisionDate: 06-Jun-2005; LatestRevisionNote: Stylized 3D Model Added.; DatasheetVersion: Jan-1995; PackageVersion: Jan-1995; PackageReference: PGA241; Publisher: Altium Limited; PackageDescription: 241-Pin Pin Grid Array 2.54 mm Pitch; ComponentLink1Description: Manufacturer Link; ComponentLink1URL: http://www.freescale.com/; ComponentLink2Description: Datasheet; ComponentLink2URL: http://www.freescale.com/files/32bit/doc/data_sheet/MC68360.pdf
footprint PGA241 (PGA, 241-Leads, Body 47x47mm, Pitch 2.54mm)
3D model MC68MH360-PGA241 (241-Pin Pin Grid Array 2.54 mm Pitch)
part A pins: A2 XTAL, A4 A26 (io), A5 A24 (io), A6 A21 (io), A7 A18 (io), A8 A15 (io), A9 A12 (io), A10 A11 (io), A11 A9 (io), A12 A6 (io), A13 A3 (io), A14 A2 (io), A15 ~{TRIS}/~{TS} (in), A16 ~{CS}6/~{RAS}6 (io), A17 ~{CS}3/~{RAS}3 (io), A18 ~{CS}0/~{RAS}0 (io), B1 SIZ0 (io), B2 A28/~{WE}3 (io), B3 MODCK0 (in), B5 A25 (io), B6 A22 (io), B7 A19 (io), B8 A16 (io), B9 A13 (io), B10 A10 (io), B11 A7 (io), B12 A5 (io), B13 A1 (io), B14 ~{IRQ}7 (in), B15 ~{CS}5/~{RAS}5 (io), B16 ~{CS}2/~{RAS}2 (io), B17 ~{CAS}2/~{IACK}3 (out), B18 ~{CAS}1/~{IACK}2 (out), C1 SIZ1 (io), C2 A29/~{WE}2 (io), C3 EXTAL (in), C4 MODCK1 (in), C5 A27 (io), C6 A23 (io), C7 A20 (io), C8 A17 (io), C9 A14 (io), C10 A8 (io), C11 A4 (io), C12 A0 (io), C13 ~{CS}7/~{RAS}7/~{IACK}7 (io), C14 ~{CS}4/~{RAS}4 (io), C15 ~{CS}1/~{RAS}1 (io), C16 ~{CAS}3/~{IACK}6 (out), C17 FREEZE/CONFIG2/~{MBARE} (out), C18 ~{DS}/TT1 (io), D1 FC2/TM2 (io), D2 FC1/TM1 (io), D3 A30/~{WE}1 (io), D4 XFC, D16 ~{CAS}0/~{IACK}1 (out), D17 R/~{W} (out), D18 ~{DSACK}0/~{TB}1 (io), E1 D30 (io), E2 FC3/TTO (io), E3 FC0/TM0 (io), E4 A31/~{WE}3 (io), E17 ~{DSACK}1/~{TA} (io), E18 PRTY3/16~{BM} (io), F1 D27 (io), F2 D29 (io), F3 D31 (io), F16 PRTY2/~{IOUT}0/~{RQOUT} (io), F17 PRTY1/~{IOUT}1 (io), F18 PRTY0/~{IOUT}2 (io), G1 D24 (io), G2 D26 (io), G3 D28 (io), G16 ~{IPIPE}0/BADD2/DSO (out), G17 ~{AS} (io), G18 ~{IPIPE}1/~{RAS1DD}/~{BCLRI} (io), H1 D21 (io), H2 D23 (io), H3 D25 (io), H17 ~{BCLRO}/CONFIG1/~{RAS2DD} (io), H18 ~{OE}/AMUX (out), J1 CLKO1 (out), J2 D20 (io), J3 D22 (io), J16 ~{IFETCH}/BADD3/DSI (io), J18 ~{BR} (in), K1 CLKO2 (out), K16 ~{IRQ}4/~{IOUT}1 (io), K17 ~{BGACK}/~{BB} (io), K18 ~{BG} (io), L1 D19 (io), L2 D18 (io), L3 D17 (io), L16 ~{TRST} (in), L17 ~{BKPT}/~{BKPTO}/DSCLK (io), L18 ~{IRQ}6/~{IOUT}2 (io), M1 D16 (io), M2 D15 (io), M3 D14 (io), M16 TDI (in), M17 TCK (in), M18 ~{RESETH} (io), N1 D13 (io), N2 D12 (io), N3 D11 (io), N16 ~{AVEC}/~{IACK}5/~{AVEC}0 (io), N17 TDO (hiz), N18 TMS (in), P1 D10 (io), P2 D9 (io), P3 D8 (io), P16 ~{HALT} (io), P17 ~{RMC}/CONFIG0/~{LOCK} (io), P18 ~{PERR} (out), Q1 D7 (io), Q2 D6 (io), Q3 D5 (io), Q16 ~{IRQ}5 (in), Q17 ~{BERR}/~{TEA} (io), Q18 ~{RESETS} (io), R1 D4 (io), R2 D3 (io), R3 D1 (io), R4 PA14/TIN4/BRGO4/CLK7 (io), R5 PA11/~{TOUT}2/CLK4 (io), R6 PA8/TIN1/L1RCLKA/BRGO1/CLK1 (io), R7 PA4/L1TXDB/RXD3 (io), R8 PA0/RXD1 (io), R9 PB14/L1SR3/~{L1RQB}/~{RTS}3 (io), R10 PB9/~{DACK}2/~{SMSYN}2 (io), R11 PB6/~{DONE}1/SMTXD1 (io), R12 PB3/BRGO4/SPIMISO(SPIRXD) (io), R13 PB0/~{RRJCT}1/~{SPISEL} (io), R14 PC8/~{SDACK}2/L1TSYNCB/~{CTS}3 (io), R15 PC4/~{CTS}1 (io), R16 PC0/L1ST1/~{RTS}1 (io), R17 ~{IRQ}3 (in), R18 ~{IRQ}1/~{IOUT}0/~{RQOUT} (io), S1 D2 (io), S2 D0 (io), S3 PA13/BRGCLK2/L1RCLKB/~{TOUT}3/~{CLK}6 (io), S4 PA10/TIN2/L1TCLKA/BRGO2/CLK3 (io), S5 PA7/L1RXDA/TXD4 (io), S6 PA5/L1RXDB/TXD3 (io), S7 PA1/TXD1 (io), S8 PB16/STRBO/BRGO3 (io), S9 PB13/L1ST2/~{RTS}2 (io), S10 PB10/L1CLKOB/SMTXD2 (io), S11 PB7/~{DONE}2/SMRXD1 (io), S12 PB4/~{DREQ}1/BRGO1 (io), S13 PB1/~{RSTRT}2/SPICLK (io), S14 PC10/~{SDACK}1/L1TSYNCA/~{CTS}4 (io), S15 PC7/~{TGATE}2/~{CD}2 (io), S16 PC3/L1ST4/~{L1RQA}/~{RTS}4 (io), S17 PC1/L1ST2/~{RTS}2 (io), S18 ~{IRQ}2 (in), T1 PA15/L1TCLKB/~{TOUT}4/CLKB (io), T2 PA12/TIN3/BRGO3/CLK5 (io), T3 PA9/BRGCLK1/~{TOUT}1/CLK2 (io), T4 PA6/L1TXDA/RXD4 (io), T5 PA3/TXD2 (io), T6 PA2/RXD2 (io), T7 PB17/STRBI/~{RSTRT}1 (io), T8 PB15/L1ST4/~{L1RQA}/~{RTS}4 (io), T9 PB12/L1ST1/~{RTS}1 (io), T10 PB11/L1CLKOA/SMRXD2 (io), T11 PB8/~{DREQ}2/~{SMSYN}1 (io), T12 PB5/~{DACK}1/BRGO2 (io), T13 PB2/~{RRJCT}2/SPIMOSI(SPITXD) (io), T14 PC11/L1RSYNCA/~{CD}4 (io), T15 PC9/L1RSYNCB/~{CD}3 (io), T16 PC6/~{CTS}2 (io), T17 PC5/~{TGATE}1/~{CD}1 (io), T18 PC2/L1ST3/~{L1RQB}/~{RTS}3 (io)
part B pins: A3 NC3, B4 GND (power), D5 VCC (power), D6 GND (power), D7 GND (power), D8 VCC (power), D9 VCC (power), D10 GND (power), D11 GND (power), D12 GND (power), D13 GND (power), D14 VCC (power), D15 GND (power), E5 VCCSYN (power), E6 GNDSYN (power), E9 GND (power), E13 VCC (power), E14 GNDs1 (power), E15 VCC (power), E16 NC3, F4 GND (power), F5 GND (power), F14 VCC (power), F15 GND (power), G4 VCC (power), G15 VCC (power), H4 GND (power), H15 GNDs2 (power), H16 NC2, J4 GND (power), J5 VCC (power), J14 GND (power), J15 GND (power), J17 NC1, K2 VCC (power), K3 GND (power), K4 VCCCLK (power), K5 GNDCLK (power), K14 VCC (power), K15 VCC (power), L4 VCC (power), L15 GND (power), M4 GND (power), M15 VCC (power), N4 GND (power), N5 GND (power), N14 GND (power), N15 GND (power), P4 GND (power), P5 VCC (power), P6 GND (power), P9 NC, P13 VCC (power), P14 GND (power), P15 GND (power), Q4 GND (power), Q5 GND (power), Q6 GND (power), Q7 VCC (power), Q8 VCC (power), Q9 GND (power), Q10 GND (power), Q11 VCC (power), Q12 VCC (power), Q13 GND (power), Q14 GND (power), Q15 GND (power)

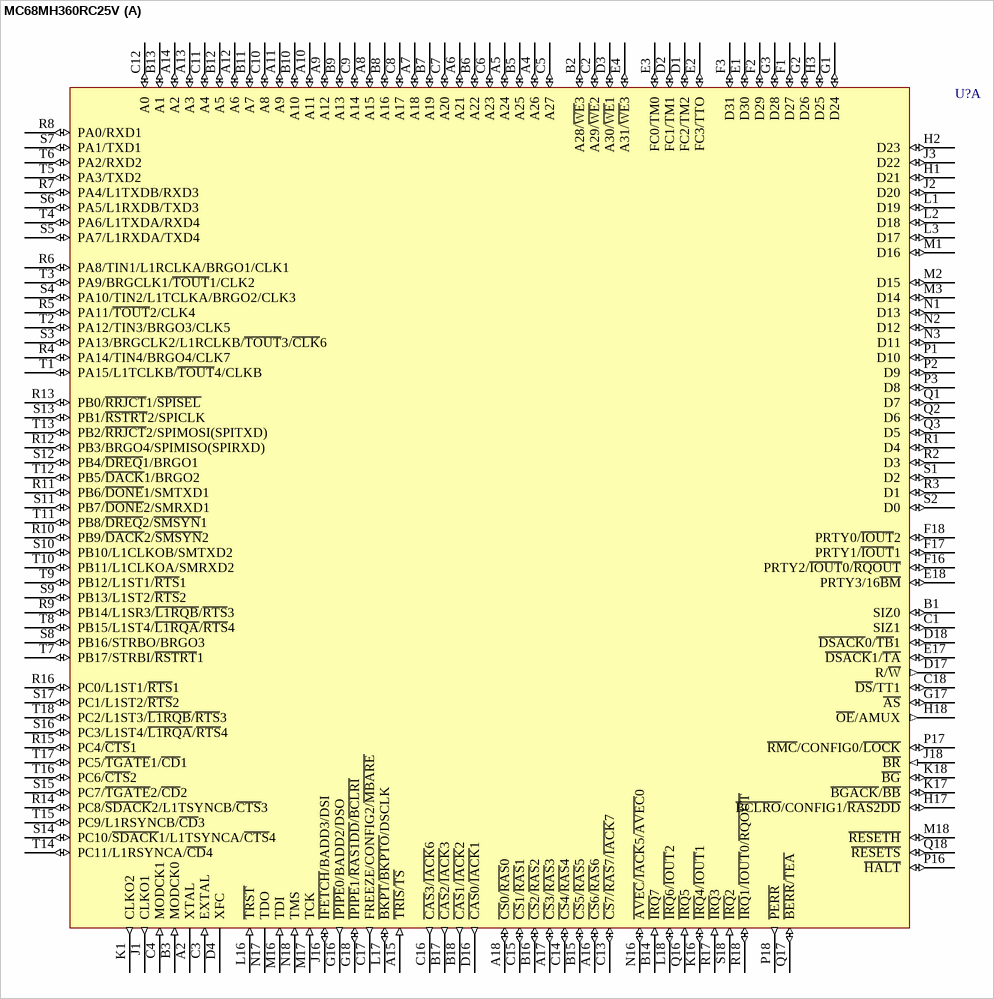
[diagram p54: symbol MC68MH360RC25V]

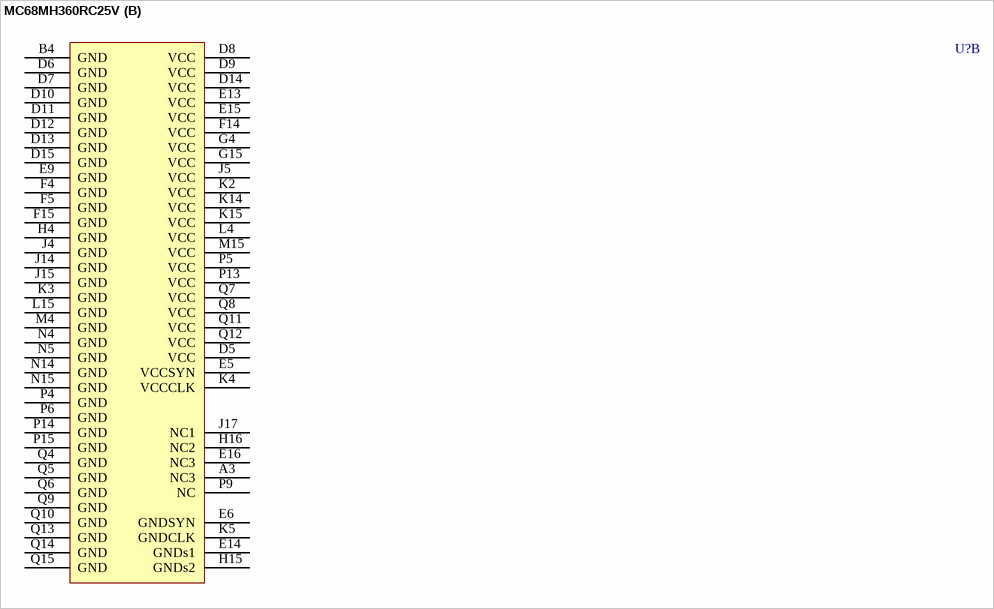
[diagram p55: symbol MC68MH360RC25V]

## MC68MH360RC25V
designator U?
Quad Integrated Communication Controller; Published: 21-Mar-2003; LatestRevisionDate: 06-Jun-2005; LatestRevisionNote: Stylized 3D Model Added.; DatasheetVersion: Jan-1995; PackageVersion: Jan-1995; PackageReference: PGA241; Publisher: Altium Limited; PackageDescription: 241-Pin Pin Grid Array 2.54 mm Pitch; ComponentLink1Description: Manufacturer Link; ComponentLink1URL: http://www.freescale.com/; ComponentLink2Description: Datasheet; ComponentLink2URL: http://www.freescale.com/files/32bit/doc/data_sheet/MC68360.pdf
footprint PGA241 (PGA, 241-Leads, Body 47x47mm, Pitch 2.54mm)
3D model MC68MH360-PGA241 (241-Pin Pin Grid Array 2.54 mm Pitch)
part A pins: A2 XTAL, A4 A26 (io), A5 A24 (io), A6 A21 (io), A7 A18 (io), A8 A15 (io), A9 A12 (io), A10 A11 (io), A11 A9 (io), A12 A6 (io), A13 A3 (io), A14 A2 (io), A15 ~{TRIS}/~{TS} (in), A16 ~{CS}6/~{RAS}6 (io), A17 ~{CS}3/~{RAS}3 (io), A18 ~{CS}0/~{RAS}0 (io), B1 SIZ0 (io), B2 A28/~{WE}3 (io), B3 MODCK0 (in), B5 A25 (io), B6 A22 (io), B7 A19 (io), B8 A16 (io), B9 A13 (io), B10 A10 (io), B11 A7 (io), B12 A5 (io), B13 A1 (io), B14 ~{IRQ}7 (in), B15 ~{CS}5/~{RAS}5 (io), B16 ~{CS}2/~{RAS}2 (io), B17 ~{CAS}2/~{IACK}3 (out), B18 ~{CAS}1/~{IACK}2 (out), C1 SIZ1 (io), C2 A29/~{WE}2 (io), C3 EXTAL (in), C4 MODCK1 (in), C5 A27 (io), C6 A23 (io), C7 A20 (io), C8 A17 (io), C9 A14 (io), C10 A8 (io), C11 A4 (io), C12 A0 (io), C13 ~{CS}7/~{RAS}7/~{IACK}7 (io), C14 ~{CS}4/~{RAS}4 (io), C15 ~{CS}1/~{RAS}1 (io), C16 ~{CAS}3/~{IACK}6 (out), C17 FREEZE/CONFIG2/~{MBARE} (out), C18 ~{DS}/TT1 (io), D1 FC2/TM2 (io), D2 FC1/TM1 (io), D3 A30/~{WE}1 (io), D4 XFC, D16 ~{CAS}0/~{IACK}1 (out), D17 R/~{W} (out), D18 ~{DSACK}0/~{TB}1 (io), E1 D30 (io), E2 FC3/TTO (io), E3 FC0/TM0 (io), E4 A31/~{WE}3 (io), E17 ~{DSACK}1/~{TA} (io), E18 PRTY3/16~{BM} (io), F1 D27 (io), F2 D29 (io), F3 D31 (io), F16 PRTY2/~{IOUT}0/~{RQOUT} (io), F17 PRTY1/~{IOUT}1 (io), F18 PRTY0/~{IOUT}2 (io), G1 D24 (io), G2 D26 (io), G3 D28 (io), G16 ~{IPIPE}0/BADD2/DSO (out), G17 ~{AS} (io), G18 ~{IPIPE}1/~{RAS1DD}/~{BCLRI} (io), H1 D21 (io), H2 D23 (io), H3 D25 (io), H17 ~{BCLRO}/CONFIG1/~{RAS2DD} (io), H18 ~{OE}/AMUX (out), J1 CLKO1 (out), J2 D20 (io), J3 D22 (io), J16 ~{IFETCH}/BADD3/DSI (io), J18 ~{BR} (in), K1 CLKO2 (out), K16 ~{IRQ}4/~{IOUT}1 (io), K17 ~{BGACK}/~{BB} (io), K18 ~{BG} (io), L1 D19 (io), L2 D18 (io), L3 D17 (io), L16 ~{TRST} (in), L17 ~{BKPT}/~{BKPTO}/DSCLK (io), L18 ~{IRQ}6/~{IOUT}2 (io), M1 D16 (io), M2 D15 (io), M3 D14 (io), M16 TDI (in), M17 TCK (in), M18 ~{RESETH} (io), N1 D13 (io), N2 D12 (io), N3 D11 (io), N16 ~{AVEC}/~{IACK}5/~{AVEC}0 (io), N17 TDO (hiz), N18 TMS (in), P1 D10 (io), P2 D9 (io), P3 D8 (io), P16 ~{HALT} (io), P17 ~{RMC}/CONFIG0/~{LOCK} (io), P18 ~{PERR} (out), Q1 D7 (io), Q2 D6 (io), Q3 D5 (io), Q16 ~{IRQ}5 (in), Q17 ~{BERR}/~{TEA} (io), Q18 ~{RESETS} (io), R1 D4 (io), R2 D3 (io), R3 D1 (io), R4 PA14/TIN4/BRGO4/CLK7 (io), R5 PA11/~{TOUT}2/CLK4 (io), R6 PA8/TIN1/L1RCLKA/BRGO1/CLK1 (io), R7 PA4/L1TXDB/RXD3 (io), R8 PA0/RXD1 (io), R9 PB14/L1SR3/~{L1RQB}/~{RTS}3 (io), R10 PB9/~{DACK}2/~{SMSYN}2 (io), R11 PB6/~{DONE}1/SMTXD1 (io), R12 PB3/BRGO4/SPIMISO(SPIRXD) (io), R13 PB0/~{RRJCT}1/~{SPISEL} (io), R14 PC8/~{SDACK}2/L1TSYNCB/~{CTS}3 (io), R15 PC4/~{CTS}1 (io), R16 PC0/L1ST1/~{RTS}1 (io), R17 ~{IRQ}3 (in), R18 ~{IRQ}1/~{IOUT}0/~{RQOUT} (io), S1 D2 (io), S2 D0 (io), S3 PA13/BRGCLK2/L1RCLKB/~{TOUT}3/~{CLK}6 (io), S4 PA10/TIN2/L1TCLKA/BRGO2/CLK3 (io), S5 PA7/L1RXDA/TXD4 (io), S6 PA5/L1RXDB/TXD3 (io), S7 PA1/TXD1 (io), S8 PB16/STRBO/BRGO3 (io), S9 PB13/L1ST2/~{RTS}2 (io), S10 PB10/L1CLKOB/SMTXD2 (io), S11 PB7/~{DONE}2/SMRXD1 (io), S12 PB4/~{DREQ}1/BRGO1 (io), S13 PB1/~{RSTRT}2/SPICLK (io), S14 PC10/~{SDACK}1/L1TSYNCA/~{CTS}4 (io), S15 PC7/~{TGATE}2/~{CD}2 (io), S16 PC3/L1ST4/~{L1RQA}/~{RTS}4 (io), S17 PC1/L1ST2/~{RTS}2 (io), S18 ~{IRQ}2 (in), T1 PA15/L1TCLKB/~{TOUT}4/CLKB (io), T2 PA12/TIN3/BRGO3/CLK5 (io), T3 PA9/BRGCLK1/~{TOUT}1/CLK2 (io), T4 PA6/L1TXDA/RXD4 (io), T5 PA3/TXD2 (io), T6 PA2/RXD2 (io), T7 PB17/STRBI/~{RSTRT}1 (io), T8 PB15/L1ST4/~{L1RQA}/~{RTS}4 (io), T9 PB12/L1ST1/~{RTS}1 (io), T10 PB11/L1CLKOA/SMRXD2 (io), T11 PB8/~{DREQ}2/~{SMSYN}1 (io), T12 PB5/~{DACK}1/BRGO2 (io), T13 PB2/~{RRJCT}2/SPIMOSI(SPITXD) (io), T14 PC11/L1RSYNCA/~{CD}4 (io), T15 PC9/L1RSYNCB/~{CD}3 (io), T16 PC6/~{CTS}2 (io), T17 PC5/~{TGATE}1/~{CD}1 (io), T18 PC2/L1ST3/~{L1RQB}/~{RTS}3 (io)
part B pins: A3 NC3, B4 GND (power), D5 VCC (power), D6 GND (power), D7 GND (power), D8 VCC (power), D9 VCC (power), D10 GND (power), D11 GND (power), D12 GND (power), D13 GND (power), D14 VCC (power), D15 GND (power), E5 VCCSYN (power), E6 GNDSYN (power), E9 GND (power), E13 VCC (power), E14 GNDs1 (power), E15 VCC (power), E16 NC3, F4 GND (power), F5 GND (power), F14 VCC (power), F15 GND (power), G4 VCC (power), G15 VCC (power), H4 GND (power), H15 GNDs2 (power), H16 NC2, J4 GND (power), J5 VCC (power), J14 GND (power), J15 GND (power), J17 NC1, K2 VCC (power), K3 GND (power), K4 VCCCLK (power), K5 GNDCLK (power), K14 VCC (power), K15 VCC (power), L4 VCC (power), L15 GND (power), M4 GND (power), M15 VCC (power), N4 GND (power), N5 GND (power), N14 GND (power), N15 GND (power), P4 GND (power), P5 VCC (power), P6 GND (power), P9 NC, P13 VCC (power), P14 GND (power), P15 GND (power), Q4 GND (power), Q5 GND (power), Q6 GND (power), Q7 VCC (power), Q8 VCC (power), Q9 GND (power), Q10 GND (power), Q11 VCC (power), Q12 VCC (power), Q13 GND (power), Q14 GND (power), Q15 GND (power)

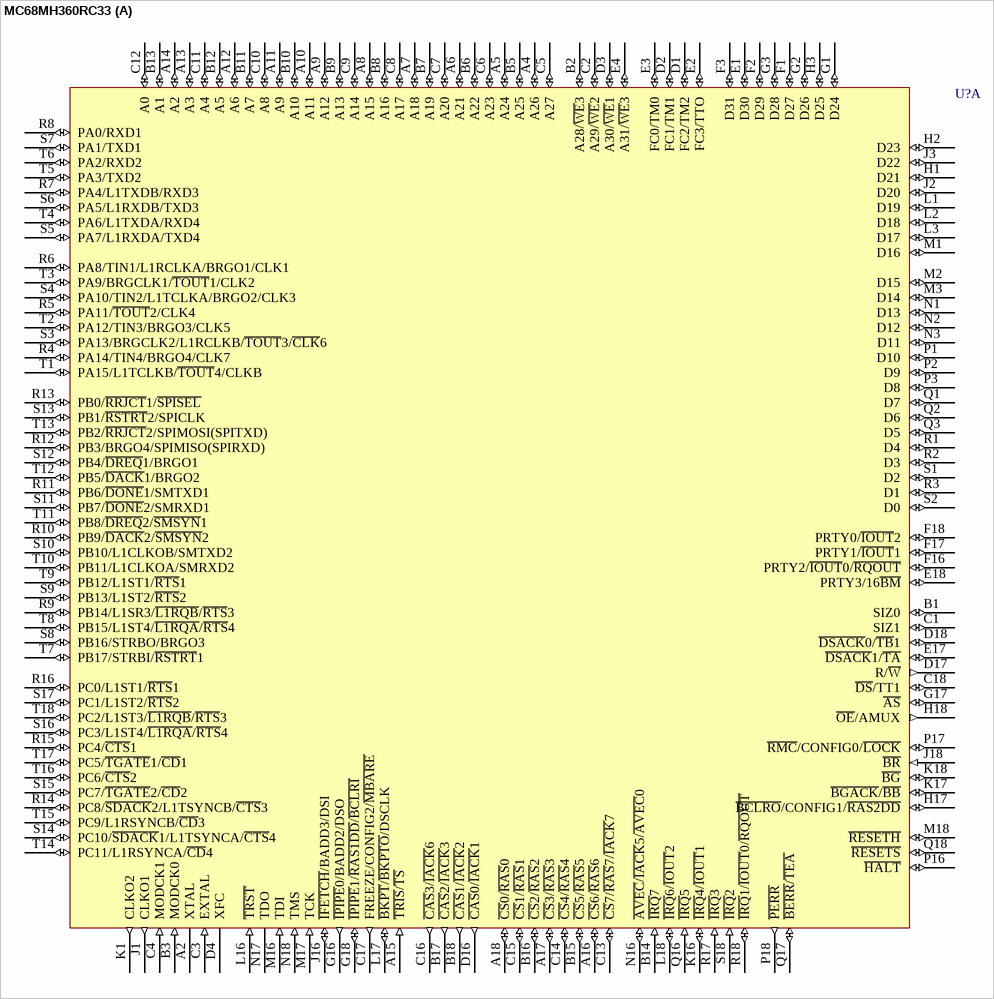
[diagram p56: symbol MC68MH360RC33]

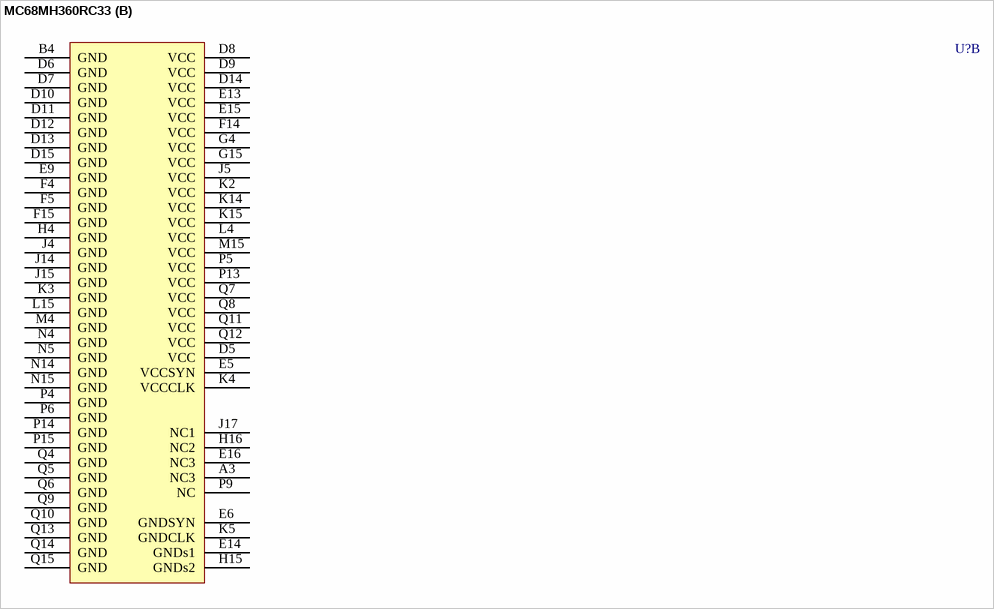
[diagram p57: symbol MC68MH360RC33]

## MC68MH360RC33
designator U?
Quad Integrated Communication Controller; Published: 21-Mar-2003; LatestRevisionDate: 06-Jun-2005; LatestRevisionNote: Stylized 3D Model Added.; DatasheetVersion: Jan-1995; PackageVersion: Jan-1995; PackageReference: PGA241; Publisher: Altium Limited; PackageDescription: 241-Pin Pin Grid Array 2.54 mm Pitch; ComponentLink1Description: Manufacturer Link; ComponentLink1URL: http://www.freescale.com/; ComponentLink2Description: Datasheet; ComponentLink2URL: http://www.freescale.com/files/32bit/doc/data_sheet/MC68360.pdf
footprint PGA241 (PGA, 241-Leads, Body 47x47mm, Pitch 2.54mm)
3D model MC68MH360-PGA241 (241-Pin Pin Grid Array 2.54 mm Pitch)
part A pins: A2 XTAL, A4 A26 (io), A5 A24 (io), A6 A21 (io), A7 A18 (io), A8 A15 (io), A9 A12 (io), A10 A11 (io), A11 A9 (io), A12 A6 (io), A13 A3 (io), A14 A2 (io), A15 ~{TRIS}/~{TS} (in), A16 ~{CS}6/~{RAS}6 (io), A17 ~{CS}3/~{RAS}3 (io), A18 ~{CS}0/~{RAS}0 (io), B1 SIZ0 (io), B2 A28/~{WE}3 (io), B3 MODCK0 (in), B5 A25 (io), B6 A22 (io), B7 A19 (io), B8 A16 (io), B9 A13 (io), B10 A10 (io), B11 A7 (io), B12 A5 (io), B13 A1 (io), B14 ~{IRQ}7 (in), B15 ~{CS}5/~{RAS}5 (io), B16 ~{CS}2/~{RAS}2 (io), B17 ~{CAS}2/~{IACK}3 (out), B18 ~{CAS}1/~{IACK}2 (out), C1 SIZ1 (io), C2 A29/~{WE}2 (io), C3 EXTAL (in), C4 MODCK1 (in), C5 A27 (io), C6 A23 (io), C7 A20 (io), C8 A17 (io), C9 A14 (io), C10 A8 (io), C11 A4 (io), C12 A0 (io), C13 ~{CS}7/~{RAS}7/~{IACK}7 (io), C14 ~{CS}4/~{RAS}4 (io), C15 ~{CS}1/~{RAS}1 (io), C16 ~{CAS}3/~{IACK}6 (out), C17 FREEZE/CONFIG2/~{MBARE} (out), C18 ~{DS}/TT1 (io), D1 FC2/TM2 (io), D2 FC1/TM1 (io), D3 A30/~{WE}1 (io), D4 XFC, D16 ~{CAS}0/~{IACK}1 (out), D17 R/~{W} (out), D18 ~{DSACK}0/~{TB}1 (io), E1 D30 (io), E2 FC3/TTO (io), E3 FC0/TM0 (io), E4 A31/~{WE}3 (io), E17 ~{DSACK}1/~{TA} (io), E18 PRTY3/16~{BM} (io), F1 D27 (io), F2 D29 (io), F3 D31 (io), F16 PRTY2/~{IOUT}0/~{RQOUT} (io), F17 PRTY1/~{IOUT}1 (io), F18 PRTY0/~{IOUT}2 (io), G1 D24 (io), G2 D26 (io), G3 D28 (io), G16 ~{IPIPE}0/BADD2/DSO (out), G17 ~{AS} (io), G18 ~{IPIPE}1/~{RAS1DD}/~{BCLRI} (io), H1 D21 (io), H2 D23 (io), H3 D25 (io), H17 ~{BCLRO}/CONFIG1/~{RAS2DD} (io), H18 ~{OE}/AMUX (out), J1 CLKO1 (out), J2 D20 (io), J3 D22 (io), J16 ~{IFETCH}/BADD3/DSI (io), J18 ~{BR} (in), K1 CLKO2 (out), K16 ~{IRQ}4/~{IOUT}1 (io), K17 ~{BGACK}/~{BB} (io), K18 ~{BG} (io), L1 D19 (io), L2 D18 (io), L3 D17 (io), L16 ~{TRST} (in), L17 ~{BKPT}/~{BKPTO}/DSCLK (io), L18 ~{IRQ}6/~{IOUT}2 (io), M1 D16 (io), M2 D15 (io), M3 D14 (io), M16 TDI (in), M17 TCK (in), M18 ~{RESETH} (io), N1 D13 (io), N2 D12 (io), N3 D11 (io), N16 ~{AVEC}/~{IACK}5/~{AVEC}0 (io), N17 TDO (hiz), N18 TMS (in), P1 D10 (io), P2 D9 (io), P3 D8 (io), P16 ~{HALT} (io), P17 ~{RMC}/CONFIG0/~{LOCK} (io), P18 ~{PERR} (out), Q1 D7 (io), Q2 D6 (io), Q3 D5 (io), Q16 ~{IRQ}5 (in), Q17 ~{BERR}/~{TEA} (io), Q18 ~{RESETS} (io), R1 D4 (io), R2 D3 (io), R3 D1 (io), R4 PA14/TIN4/BRGO4/CLK7 (io), R5 PA11/~{TOUT}2/CLK4 (io), R6 PA8/TIN1/L1RCLKA/BRGO1/CLK1 (io), R7 PA4/L1TXDB/RXD3 (io), R8 PA0/RXD1 (io), R9 PB14/L1SR3/~{L1RQB}/~{RTS}3 (io), R10 PB9/~{DACK}2/~{SMSYN}2 (io), R11 PB6/~{DONE}1/SMTXD1 (io), R12 PB3/BRGO4/SPIMISO(SPIRXD) (io), R13 PB0/~{RRJCT}1/~{SPISEL} (io), R14 PC8/~{SDACK}2/L1TSYNCB/~{CTS}3 (io), R15 PC4/~{CTS}1 (io), R16 PC0/L1ST1/~{RTS}1 (io), R17 ~{IRQ}3 (in), R18 ~{IRQ}1/~{IOUT}0/~{RQOUT} (io), S1 D2 (io), S2 D0 (io), S3 PA13/BRGCLK2/L1RCLKB/~{TOUT}3/~{CLK}6 (io), S4 PA10/TIN2/L1TCLKA/BRGO2/CLK3 (io), S5 PA7/L1RXDA/TXD4 (io), S6 PA5/L1RXDB/TXD3 (io), S7 PA1/TXD1 (io), S8 PB16/STRBO/BRGO3 (io), S9 PB13/L1ST2/~{RTS}2 (io), S10 PB10/L1CLKOB/SMTXD2 (io), S11 PB7/~{DONE}2/SMRXD1 (io), S12 PB4/~{DREQ}1/BRGO1 (io), S13 PB1/~{RSTRT}2/SPICLK (io), S14 PC10/~{SDACK}1/L1TSYNCA/~{CTS}4 (io), S15 PC7/~{TGATE}2/~{CD}2 (io), S16 PC3/L1ST4/~{L1RQA}/~{RTS}4 (io), S17 PC1/L1ST2/~{RTS}2 (io), S18 ~{IRQ}2 (in), T1 PA15/L1TCLKB/~{TOUT}4/CLKB (io), T2 PA12/TIN3/BRGO3/CLK5 (io), T3 PA9/BRGCLK1/~{TOUT}1/CLK2 (io), T4 PA6/L1TXDA/RXD4 (io), T5 PA3/TXD2 (io), T6 PA2/RXD2 (io), T7 PB17/STRBI/~{RSTRT}1 (io), T8 PB15/L1ST4/~{L1RQA}/~{RTS}4 (io), T9 PB12/L1ST1/~{RTS}1 (io), T10 PB11/L1CLKOA/SMRXD2 (io), T11 PB8/~{DREQ}2/~{SMSYN}1 (io), T12 PB5/~{DACK}1/BRGO2 (io), T13 PB2/~{RRJCT}2/SPIMOSI(SPITXD) (io), T14 PC11/L1RSYNCA/~{CD}4 (io), T15 PC9/L1RSYNCB/~{CD}3 (io), T16 PC6/~{CTS}2 (io), T17 PC5/~{TGATE}1/~{CD}1 (io), T18 PC2/L1ST3/~{L1RQB}/~{RTS}3 (io)
part B pins: A3 NC3, B4 GND (power), D5 VCC (power), D6 GND (power), D7 GND (power), D8 VCC (power), D9 VCC (power), D10 GND (power), D11 GND (power), D12 GND (power), D13 GND (power), D14 VCC (power), D15 GND (power), E5 VCCSYN (power), E6 GNDSYN (power), E9 GND (power), E13 VCC (power), E14 GNDs1 (power), E15 VCC (power), E16 NC3, F4 GND (power), F5 GND (power), F14 VCC (power), F15 GND (power), G4 VCC (power), G15 VCC (power), H4 GND (power), H15 GNDs2 (power), H16 NC2, J4 GND (power), J5 VCC (power), J14 GND (power), J15 GND (power), J17 NC1, K2 VCC (power), K3 GND (power), K4 VCCCLK (power), K5 GNDCLK (power), K14 VCC (power), K15 VCC (power), L4 VCC (power), L15 GND (power), M4 GND (power), M15 VCC (power), N4 GND (power), N5 GND (power), N14 GND (power), N15 GND (power), P4 GND (power), P5 VCC (power), P6 GND (power), P9 NC, P13 VCC (power), P14 GND (power), P15 GND (power), Q4 GND (power), Q5 GND (power), Q6 GND (power), Q7 VCC (power), Q8 VCC (power), Q9 GND (power), Q10 GND (power), Q11 VCC (power), Q12 VCC (power), Q13 GND (power), Q14 GND (power), Q15 GND (power)

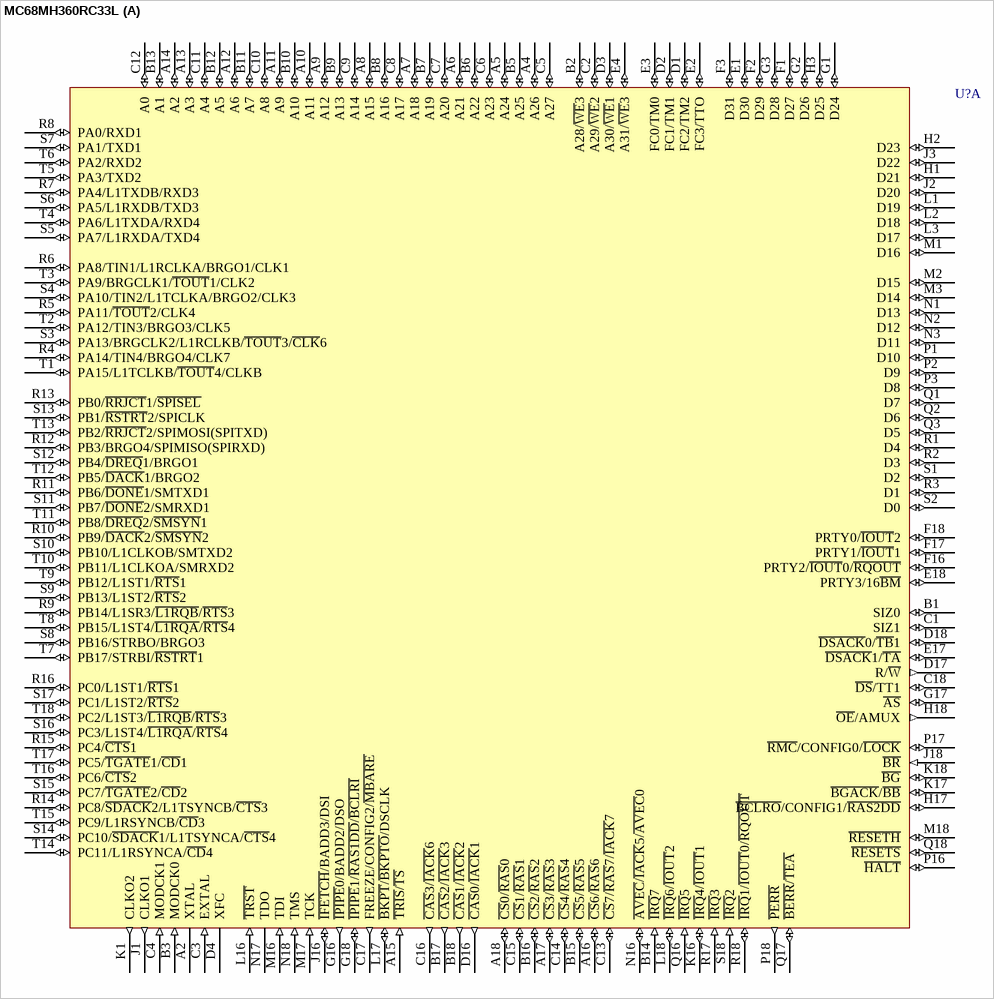
[diagram p58: symbol MC68MH360RC33L]

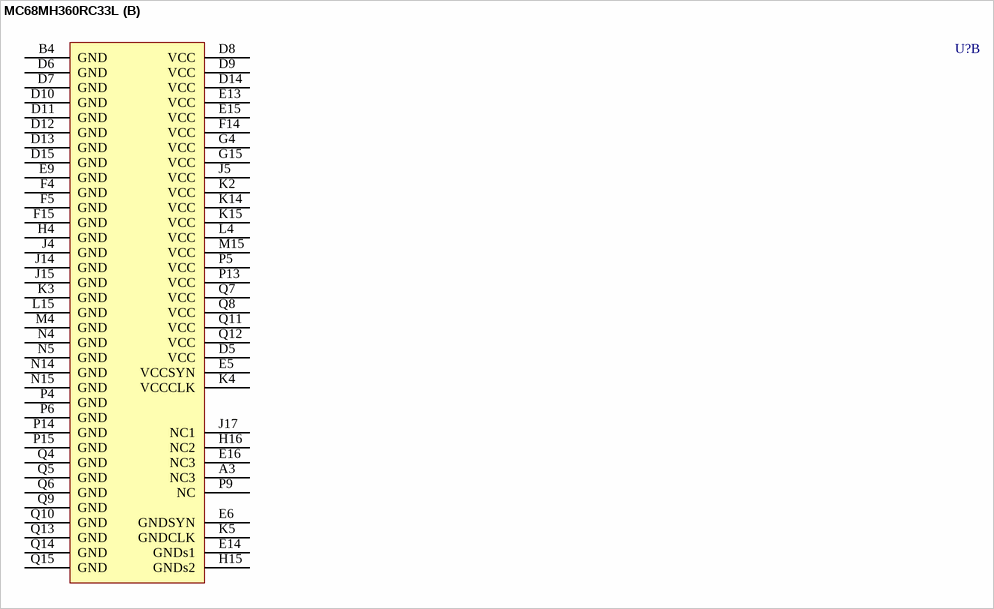
[diagram p59: symbol MC68MH360RC33L]

## MC68MH360RC33L
designator U?
Quad Integrated Communication Controller; Published: 21-Mar-2003; LatestRevisionDate: 06-Jun-2005; LatestRevisionNote: Stylized 3D Model Added.; DatasheetVersion: Jan-1995; PackageVersion: Jan-1995; PackageReference: PGA241; Publisher: Altium Limited; PackageDescription: 241-Pin Pin Grid Array 2.54 mm Pitch; ComponentLink1Description: Manufacturer Link; ComponentLink1URL: http://www.freescale.com/; ComponentLink2Description: Datasheet; ComponentLink2URL: http://www.freescale.com/files/32bit/doc/data_sheet/MC68360.pdf
footprint PGA241 (PGA, 241-Leads, Body 47x47mm, Pitch 2.54mm)
3D model MC68MH360-PGA241 (241-Pin Pin Grid Array 2.54 mm Pitch)
part A pins: A2 XTAL, A4 A26 (io), A5 A24 (io), A6 A21 (io), A7 A18 (io), A8 A15 (io), A9 A12 (io), A10 A11 (io), A11 A9 (io), A12 A6 (io), A13 A3 (io), A14 A2 (io), A15 ~{TRIS}/~{TS} (in), A16 ~{CS}6/~{RAS}6 (io), A17 ~{CS}3/~{RAS}3 (io), A18 ~{CS}0/~{RAS}0 (io), B1 SIZ0 (io), B2 A28/~{WE}3 (io), B3 MODCK0 (in), B5 A25 (io), B6 A22 (io), B7 A19 (io), B8 A16 (io), B9 A13 (io), B10 A10 (io), B11 A7 (io), B12 A5 (io), B13 A1 (io), B14 ~{IRQ}7 (in), B15 ~{CS}5/~{RAS}5 (io), B16 ~{CS}2/~{RAS}2 (io), B17 ~{CAS}2/~{IACK}3 (out), B18 ~{CAS}1/~{IACK}2 (out), C1 SIZ1 (io), C2 A29/~{WE}2 (io), C3 EXTAL (in), C4 MODCK1 (in), C5 A27 (io), C6 A23 (io), C7 A20 (io), C8 A17 (io), C9 A14 (io), C10 A8 (io), C11 A4 (io), C12 A0 (io), C13 ~{CS}7/~{RAS}7/~{IACK}7 (io), C14 ~{CS}4/~{RAS}4 (io), C15 ~{CS}1/~{RAS}1 (io), C16 ~{CAS}3/~{IACK}6 (out), C17 FREEZE/CONFIG2/~{MBARE} (out), C18 ~{DS}/TT1 (io), D1 FC2/TM2 (io), D2 FC1/TM1 (io), D3 A30/~{WE}1 (io), D4 XFC, D16 ~{CAS}0/~{IACK}1 (out), D17 R/~{W} (out), D18 ~{DSACK}0/~{TB}1 (io), E1 D30 (io), E2 FC3/TTO (io), E3 FC0/TM0 (io), E4 A31/~{WE}3 (io), E17 ~{DSACK}1/~{TA} (io), E18 PRTY3/16~{BM} (io), F1 D27 (io), F2 D29 (io), F3 D31 (io), F16 PRTY2/~{IOUT}0/~{RQOUT} (io), F17 PRTY1/~{IOUT}1 (io), F18 PRTY0/~{IOUT}2 (io), G1 D24 (io), G2 D26 (io), G3 D28 (io), G16 ~{IPIPE}0/BADD2/DSO (out), G17 ~{AS} (io), G18 ~{IPIPE}1/~{RAS1DD}/~{BCLRI} (io), H1 D21 (io), H2 D23 (io), H3 D25 (io), H17 ~{BCLRO}/CONFIG1/~{RAS2DD} (io), H18 ~{OE}/AMUX (out), J1 CLKO1 (out), J2 D20 (io), J3 D22 (io), J16 ~{IFETCH}/BADD3/DSI (io), J18 ~{BR} (in), K1 CLKO2 (out), K16 ~{IRQ}4/~{IOUT}1 (io), K17 ~{BGACK}/~{BB} (io), K18 ~{BG} (io), L1 D19 (io), L2 D18 (io), L3 D17 (io), L16 ~{TRST} (in), L17 ~{BKPT}/~{BKPTO}/DSCLK (io), L18 ~{IRQ}6/~{IOUT}2 (io), M1 D16 (io), M2 D15 (io), M3 D14 (io), M16 TDI (in), M17 TCK (in), M18 ~{RESETH} (io), N1 D13 (io), N2 D12 (io), N3 D11 (io), N16 ~{AVEC}/~{IACK}5/~{AVEC}0 (io), N17 TDO (hiz), N18 TMS (in), P1 D10 (io), P2 D9 (io), P3 D8 (io), P16 ~{HALT} (io), P17 ~{RMC}/CONFIG0/~{LOCK} (io), P18 ~{PERR} (out), Q1 D7 (io), Q2 D6 (io), Q3 D5 (io), Q16 ~{IRQ}5 (in), Q17 ~{BERR}/~{TEA} (io), Q18 ~{RESETS} (io), R1 D4 (io), R2 D3 (io), R3 D1 (io), R4 PA14/TIN4/BRGO4/CLK7 (io), R5 PA11/~{TOUT}2/CLK4 (io), R6 PA8/TIN1/L1RCLKA/BRGO1/CLK1 (io), R7 PA4/L1TXDB/RXD3 (io), R8 PA0/RXD1 (io), R9 PB14/L1SR3/~{L1RQB}/~{RTS}3 (io), R10 PB9/~{DACK}2/~{SMSYN}2 (io), R11 PB6/~{DONE}1/SMTXD1 (io), R12 PB3/BRGO4/SPIMISO(SPIRXD) (io), R13 PB0/~{RRJCT}1/~{SPISEL} (io), R14 PC8/~{SDACK}2/L1TSYNCB/~{CTS}3 (io), R15 PC4/~{CTS}1 (io), R16 PC0/L1ST1/~{RTS}1 (io), R17 ~{IRQ}3 (in), R18 ~{IRQ}1/~{IOUT}0/~{RQOUT} (io), S1 D2 (io), S2 D0 (io), S3 PA13/BRGCLK2/L1RCLKB/~{TOUT}3/~{CLK}6 (io), S4 PA10/TIN2/L1TCLKA/BRGO2/CLK3 (io), S5 PA7/L1RXDA/TXD4 (io), S6 PA5/L1RXDB/TXD3 (io), S7 PA1/TXD1 (io), S8 PB16/STRBO/BRGO3 (io), S9 PB13/L1ST2/~{RTS}2 (io), S10 PB10/L1CLKOB/SMTXD2 (io), S11 PB7/~{DONE}2/SMRXD1 (io), S12 PB4/~{DREQ}1/BRGO1 (io), S13 PB1/~{RSTRT}2/SPICLK (io), S14 PC10/~{SDACK}1/L1TSYNCA/~{CTS}4 (io), S15 PC7/~{TGATE}2/~{CD}2 (io), S16 PC3/L1ST4/~{L1RQA}/~{RTS}4 (io), S17 PC1/L1ST2/~{RTS}2 (io), S18 ~{IRQ}2 (in), T1 PA15/L1TCLKB/~{TOUT}4/CLKB (io), T2 PA12/TIN3/BRGO3/CLK5 (io), T3 PA9/BRGCLK1/~{TOUT}1/CLK2 (io), T4 PA6/L1TXDA/RXD4 (io), T5 PA3/TXD2 (io), T6 PA2/RXD2 (io), T7 PB17/STRBI/~{RSTRT}1 (io), T8 PB15/L1ST4/~{L1RQA}/~{RTS}4 (io), T9 PB12/L1ST1/~{RTS}1 (io), T10 PB11/L1CLKOA/SMRXD2 (io), T11 PB8/~{DREQ}2/~{SMSYN}1 (io), T12 PB5/~{DACK}1/BRGO2 (io), T13 PB2/~{RRJCT}2/SPIMOSI(SPITXD) (io), T14 PC11/L1RSYNCA/~{CD}4 (io), T15 PC9/L1RSYNCB/~{CD}3 (io), T16 PC6/~{CTS}2 (io), T17 PC5/~{TGATE}1/~{CD}1 (io), T18 PC2/L1ST3/~{L1RQB}/~{RTS}3 (io)
part B pins: A3 NC3, B4 GND (power), D5 VCC (power), D6 GND (power), D7 GND (power), D8 VCC (power), D9 VCC (power), D10 GND (power), D11 GND (power), D12 GND (power), D13 GND (power), D14 VCC (power), D15 GND (power), E5 VCCSYN (power), E6 GNDSYN (power), E9 GND (power), E13 VCC (power), E14 GNDs1 (power), E15 VCC (power), E16 NC3, F4 GND (power), F5 GND (power), F14 VCC (power), F15 GND (power), G4 VCC (power), G15 VCC (power), H4 GND (power), H15 GNDs2 (power), H16 NC2, J4 GND (power), J5 VCC (power), J14 GND (power), J15 GND (power), J17 NC1, K2 VCC (power), K3 GND (power), K4 VCCCLK (power), K5 GNDCLK (power), K14 VCC (power), K15 VCC (power), L4 VCC (power), L15 GND (power), M4 GND (power), M15 VCC (power), N4 GND (power), N5 GND (power), N14 GND (power), N15 GND (power), P4 GND (power), P5 VCC (power), P6 GND (power), P9 NC, P13 VCC (power), P14 GND (power), P15 GND (power), Q4 GND (power), Q5 GND (power), Q6 GND (power), Q7 VCC (power), Q8 VCC (power), Q9 GND (power), Q10 GND (power), Q11 VCC (power), Q12 VCC (power), Q13 GND (power), Q14 GND (power), Q15 GND (power)

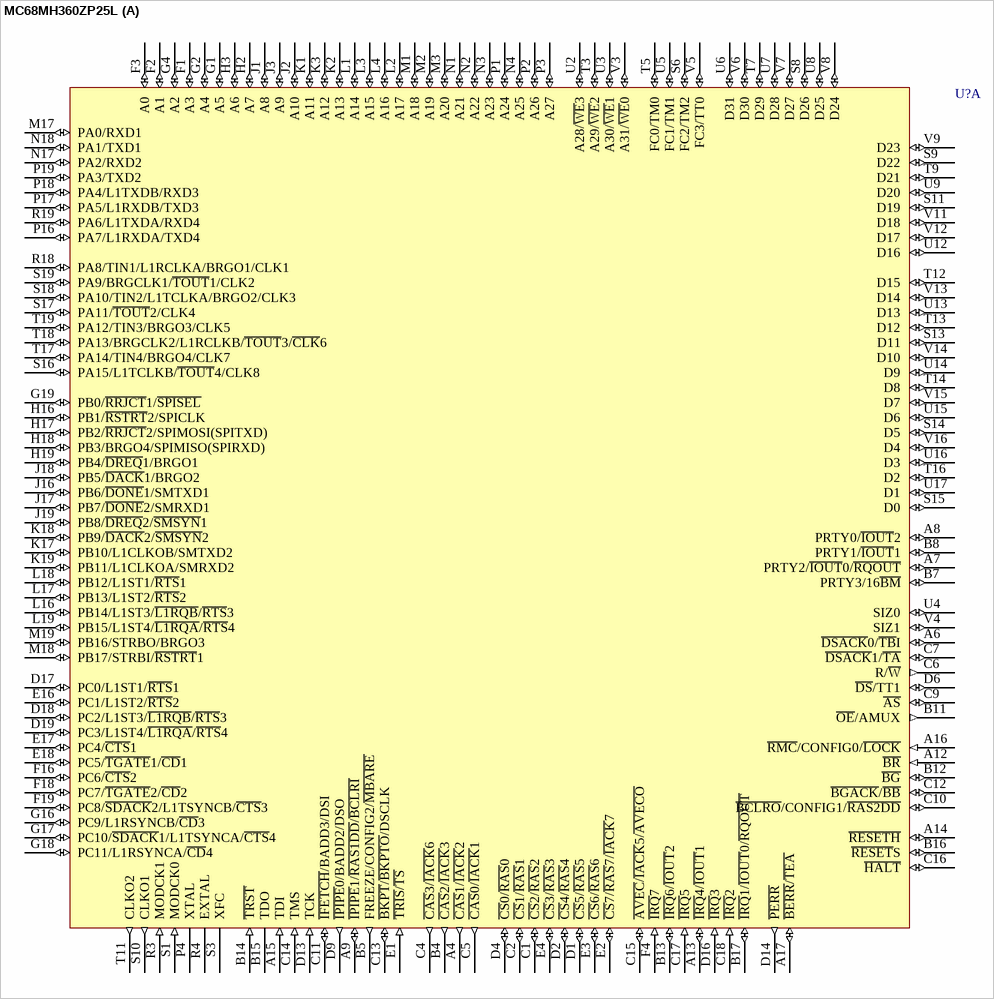
[diagram p60: symbol MC68MH360ZP25L]

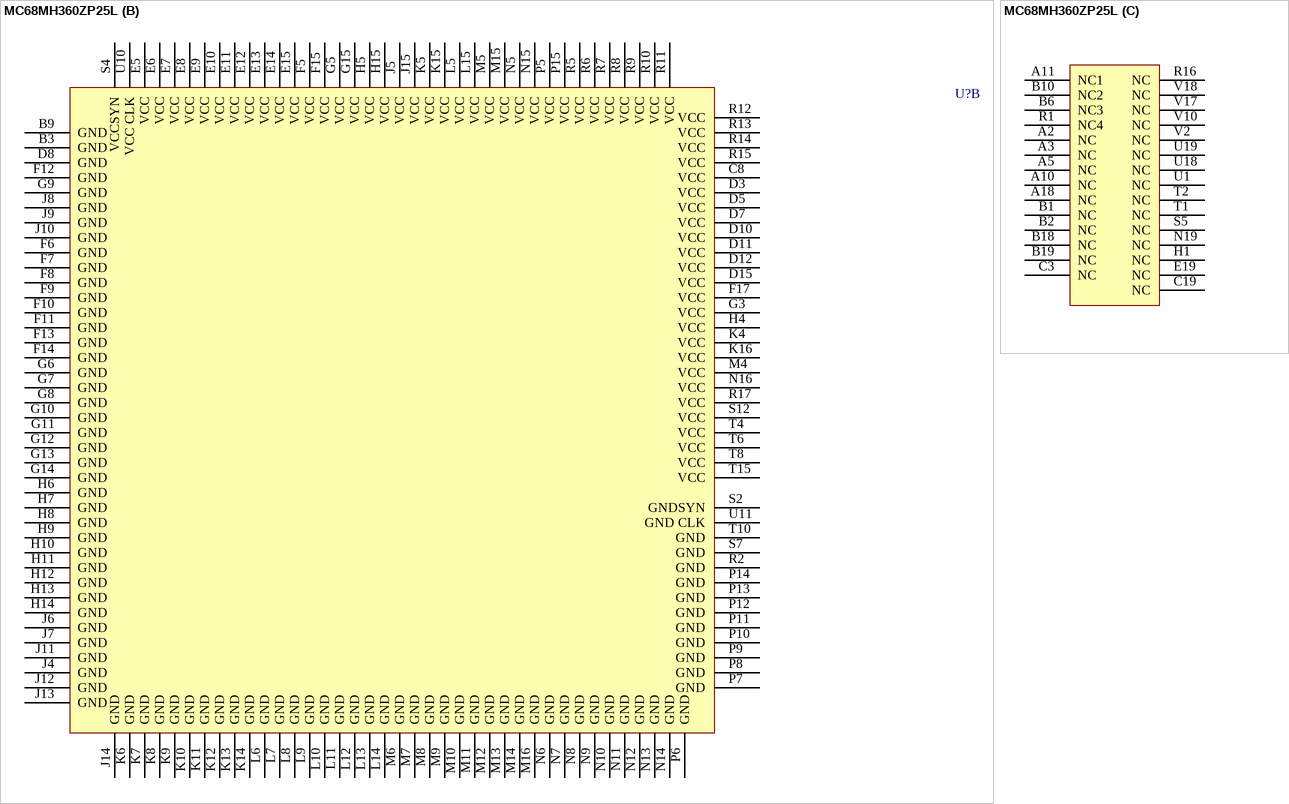
[diagram p61: symbol MC68MH360ZP25L]